# Altium integrated library microbuilder.IntLib: 530 symbols (part 6 of 7)
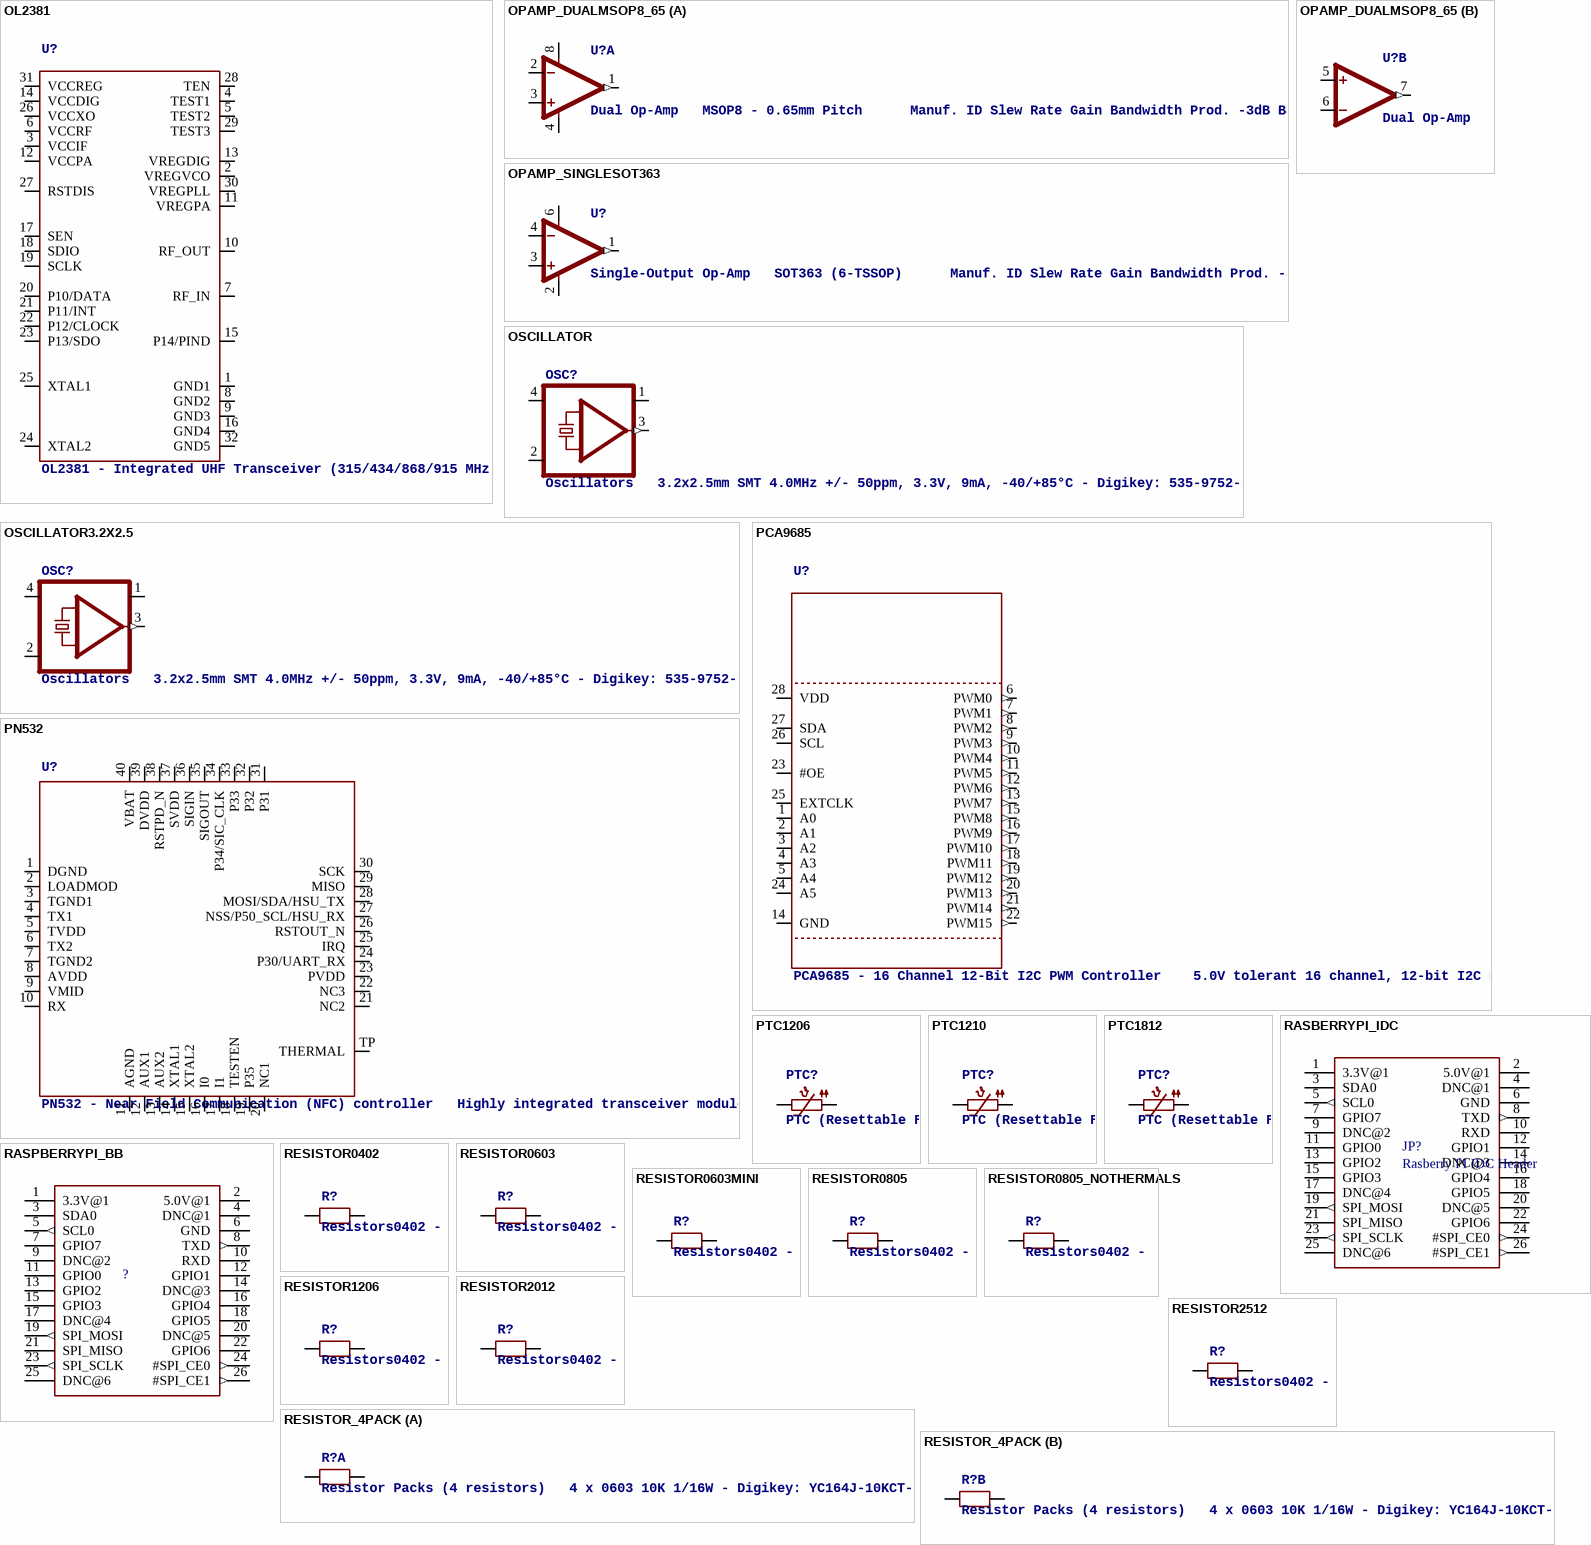
[diagram p57: symbols OL2381 to RESISTOR_4PACK]

## RESISTOR0805_NOTHERMALS
designator R?, comment Resistors0402 - 0402 Surface Mount Package  22 Ohm 1% 1/16W [Digikey: 311-22.0LRTR-ND]  33 Ohm 5% 1/16W  1.0K 5% 1/16W  1.5K 5% 1/16W  2.0K 1% 1/16W  10.0K 1% 1/16W [Digikey: 311-10.0KLRTR-ND]  10.0K 5% 1/16W [Digikey: RMCF0402JT10K0TR-ND]  12.1K 1% 1/16W [Digikey: 311-22.0LRTR-ND]  100.0K 5% 1/16W    0603 - 0603 Surface Mount Package  0 Ohm 1/10 Watt 1% Resistor  15 Ohm 1/10 Watt 1% Resistor  33 Ohm 1/10 Watt 1% Resistor  49.9 Ohm 1/10 Watt 1% Resistor  100 Ohm 1/10 Watt 1% Resistor  150 Ohm 1/10 Watt 1% Resistor  240 Ohm 1/10 Watt 1% Resistor  390 Ohm 1/10 Watt 1% Resistor  560 Ohm 1/10 Watt 1% Resistor  680 Ohm 1/10 Watt 1% Resistor  750 Ohm 1/10 Watt 1% Resistor  1.0K Ohm 1/10 Watt 1% Resistor  1.5K Ohm 1/10 Watt 1% Resistor  2.0K Ohm 1/10 Watt 1% Resistor  2.2K Ohm 1/10 Watt 1% Resistor  3.3K Ohm 1/10 Watt 1% Resistor  4.7K Ohm 1/10 Watt 1% Resistor  10.0K Ohm 1/10 Watt 1% Resistor  12.0K Ohm 1/10 Watt 1% Resistor  12.1K Ohm 1/10 Watt 1% Resistor  20.0K Ohm 1/10 Watt 1% Resistor  33.0K Ohm 1/10 Watt 1% Resistor  100.0K Ohm 1/10 Watt 1% Resistor    0805 - 0805 Surface Mount Package  0 Ohm 1/8 Watt 1% Resistor  33 Ohm 1/8 Watt 1% Resistor  100 Ohm 1/8 Watt 1% Resistor  150 Ohm 1/8 Watt 1% Resistor  200 Ohm 1/8 Watt 1% Resistor  240 Ohm 1/8 Watt 1% Resistor  330 Ohm 1/8 Watt 1% Resistor  390 Ohm 1/8 Watt 1% Resistor  470 Ohm 1/8 Watt 1% Resistor  1.0K Ohm 1/8 Watt 1% Resistor  1.5K Ohm 1/8 Watt 1% Resistor  2.0K Ohm 1/8 Watt 1% Resistor  4.7K Ohm 1/8 Watt 1% Resistor  5.1K Ohm 1/8 Watt 1% Resistor  5.6K Ohm 1/8 Watt 1% Resistor  10.0K Ohm 1/8 Watt 1% Resistor  22.0K Ohm 1/8 Watt 1% Resistor  33.0K Ohm 1/8 Watt 1% Resistor  100K Ohm 1/8 Watt 1% Resistor    1206 - 1206 Surface Mount Package  2012 - 2010 Surface Mount Package  0.11 Ohm 1/2 Watt 1% Resistor - Digikey: RHM.11UCT-ND
footprint 0805_NOTHERMALS
pins: 1, 2

## RESISTOR1206
designator R?, comment Resistors0402 - 0402 Surface Mount Package  22 Ohm 1% 1/16W [Digikey: 311-22.0LRTR-ND]  33 Ohm 5% 1/16W  1.0K 5% 1/16W  1.5K 5% 1/16W  2.0K 1% 1/16W  10.0K 1% 1/16W [Digikey: 311-10.0KLRTR-ND]  10.0K 5% 1/16W [Digikey: RMCF0402JT10K0TR-ND]  12.1K 1% 1/16W [Digikey: 311-22.0LRTR-ND]  100.0K 5% 1/16W    0603 - 0603 Surface Mount Package  0 Ohm 1/10 Watt 1% Resistor  15 Ohm 1/10 Watt 1% Resistor  33 Ohm 1/10 Watt 1% Resistor  49.9 Ohm 1/10 Watt 1% Resistor  100 Ohm 1/10 Watt 1% Resistor  150 Ohm 1/10 Watt 1% Resistor  240 Ohm 1/10 Watt 1% Resistor  390 Ohm 1/10 Watt 1% Resistor  560 Ohm 1/10 Watt 1% Resistor  680 Ohm 1/10 Watt 1% Resistor  750 Ohm 1/10 Watt 1% Resistor  1.0K Ohm 1/10 Watt 1% Resistor  1.5K Ohm 1/10 Watt 1% Resistor  2.0K Ohm 1/10 Watt 1% Resistor  2.2K Ohm 1/10 Watt 1% Resistor  3.3K Ohm 1/10 Watt 1% Resistor  4.7K Ohm 1/10 Watt 1% Resistor  10.0K Ohm 1/10 Watt 1% Resistor  12.0K Ohm 1/10 Watt 1% Resistor  12.1K Ohm 1/10 Watt 1% Resistor  20.0K Ohm 1/10 Watt 1% Resistor  33.0K Ohm 1/10 Watt 1% Resistor  100.0K Ohm 1/10 Watt 1% Resistor    0805 - 0805 Surface Mount Package  0 Ohm 1/8 Watt 1% Resistor  33 Ohm 1/8 Watt 1% Resistor  100 Ohm 1/8 Watt 1% Resistor  150 Ohm 1/8 Watt 1% Resistor  200 Ohm 1/8 Watt 1% Resistor  240 Ohm 1/8 Watt 1% Resistor  330 Ohm 1/8 Watt 1% Resistor  390 Ohm 1/8 Watt 1% Resistor  470 Ohm 1/8 Watt 1% Resistor  1.0K Ohm 1/8 Watt 1% Resistor  1.5K Ohm 1/8 Watt 1% Resistor  2.0K Ohm 1/8 Watt 1% Resistor  4.7K Ohm 1/8 Watt 1% Resistor  5.1K Ohm 1/8 Watt 1% Resistor  5.6K Ohm 1/8 Watt 1% Resistor  10.0K Ohm 1/8 Watt 1% Resistor  22.0K Ohm 1/8 Watt 1% Resistor  33.0K Ohm 1/8 Watt 1% Resistor  100K Ohm 1/8 Watt 1% Resistor    1206 - 1206 Surface Mount Package  2012 - 2010 Surface Mount Package  0.11 Ohm 1/2 Watt 1% Resistor - Digikey: RHM.11UCT-ND
footprint 1206
pins: 1, 2

## RESISTOR2012
designator R?, comment Resistors0402 - 0402 Surface Mount Package  22 Ohm 1% 1/16W [Digikey: 311-22.0LRTR-ND]  33 Ohm 5% 1/16W  1.0K 5% 1/16W  1.5K 5% 1/16W  2.0K 1% 1/16W  10.0K 1% 1/16W [Digikey: 311-10.0KLRTR-ND]  10.0K 5% 1/16W [Digikey: RMCF0402JT10K0TR-ND]  12.1K 1% 1/16W [Digikey: 311-22.0LRTR-ND]  100.0K 5% 1/16W    0603 - 0603 Surface Mount Package  0 Ohm 1/10 Watt 1% Resistor  15 Ohm 1/10 Watt 1% Resistor  33 Ohm 1/10 Watt 1% Resistor  49.9 Ohm 1/10 Watt 1% Resistor  100 Ohm 1/10 Watt 1% Resistor  150 Ohm 1/10 Watt 1% Resistor  240 Ohm 1/10 Watt 1% Resistor  390 Ohm 1/10 Watt 1% Resistor  560 Ohm 1/10 Watt 1% Resistor  680 Ohm 1/10 Watt 1% Resistor  750 Ohm 1/10 Watt 1% Resistor  1.0K Ohm 1/10 Watt 1% Resistor  1.5K Ohm 1/10 Watt 1% Resistor  2.0K Ohm 1/10 Watt 1% Resistor  2.2K Ohm 1/10 Watt 1% Resistor  3.3K Ohm 1/10 Watt 1% Resistor  4.7K Ohm 1/10 Watt 1% Resistor  10.0K Ohm 1/10 Watt 1% Resistor  12.0K Ohm 1/10 Watt 1% Resistor  12.1K Ohm 1/10 Watt 1% Resistor  20.0K Ohm 1/10 Watt 1% Resistor  33.0K Ohm 1/10 Watt 1% Resistor  100.0K Ohm 1/10 Watt 1% Resistor    0805 - 0805 Surface Mount Package  0 Ohm 1/8 Watt 1% Resistor  33 Ohm 1/8 Watt 1% Resistor  100 Ohm 1/8 Watt 1% Resistor  150 Ohm 1/8 Watt 1% Resistor  200 Ohm 1/8 Watt 1% Resistor  240 Ohm 1/8 Watt 1% Resistor  330 Ohm 1/8 Watt 1% Resistor  390 Ohm 1/8 Watt 1% Resistor  470 Ohm 1/8 Watt 1% Resistor  1.0K Ohm 1/8 Watt 1% Resistor  1.5K Ohm 1/8 Watt 1% Resistor  2.0K Ohm 1/8 Watt 1% Resistor  4.7K Ohm 1/8 Watt 1% Resistor  5.1K Ohm 1/8 Watt 1% Resistor  5.6K Ohm 1/8 Watt 1% Resistor  10.0K Ohm 1/8 Watt 1% Resistor  22.0K Ohm 1/8 Watt 1% Resistor  33.0K Ohm 1/8 Watt 1% Resistor  100K Ohm 1/8 Watt 1% Resistor    1206 - 1206 Surface Mount Package  2012 - 2010 Surface Mount Package  0.11 Ohm 1/2 Watt 1% Resistor - Digikey: RHM.11UCT-ND
footprint 2012
pins: 1, 2

## RESISTOR2512
designator R?, comment Resistors0402 - 0402 Surface Mount Package  22 Ohm 1% 1/16W [Digikey: 311-22.0LRTR-ND]  33 Ohm 5% 1/16W  1.0K 5% 1/16W  1.5K 5% 1/16W  2.0K 1% 1/16W  10.0K 1% 1/16W [Digikey: 311-10.0KLRTR-ND]  10.0K 5% 1/16W [Digikey: RMCF0402JT10K0TR-ND]  12.1K 1% 1/16W [Digikey: 311-22.0LRTR-ND]  100.0K 5% 1/16W    0603 - 0603 Surface Mount Package  0 Ohm 1/10 Watt 1% Resistor  15 Ohm 1/10 Watt 1% Resistor  33 Ohm 1/10 Watt 1% Resistor  49.9 Ohm 1/10 Watt 1% Resistor  100 Ohm 1/10 Watt 1% Resistor  150 Ohm 1/10 Watt 1% Resistor  240 Ohm 1/10 Watt 1% Resistor  390 Ohm 1/10 Watt 1% Resistor  560 Ohm 1/10 Watt 1% Resistor  680 Ohm 1/10 Watt 1% Resistor  750 Ohm 1/10 Watt 1% Resistor  1.0K Ohm 1/10 Watt 1% Resistor  1.5K Ohm 1/10 Watt 1% Resistor  2.0K Ohm 1/10 Watt 1% Resistor  2.2K Ohm 1/10 Watt 1% Resistor  3.3K Ohm 1/10 Watt 1% Resistor  4.7K Ohm 1/10 Watt 1% Resistor  10.0K Ohm 1/10 Watt 1% Resistor  12.0K Ohm 1/10 Watt 1% Resistor  12.1K Ohm 1/10 Watt 1% Resistor  20.0K Ohm 1/10 Watt 1% Resistor  33.0K Ohm 1/10 Watt 1% Resistor  100.0K Ohm 1/10 Watt 1% Resistor    0805 - 0805 Surface Mount Package  0 Ohm 1/8 Watt 1% Resistor  33 Ohm 1/8 Watt 1% Resistor  100 Ohm 1/8 Watt 1% Resistor  150 Ohm 1/8 Watt 1% Resistor  200 Ohm 1/8 Watt 1% Resistor  240 Ohm 1/8 Watt 1% Resistor  330 Ohm 1/8 Watt 1% Resistor  390 Ohm 1/8 Watt 1% Resistor  470 Ohm 1/8 Watt 1% Resistor  1.0K Ohm 1/8 Watt 1% Resistor  1.5K Ohm 1/8 Watt 1% Resistor  2.0K Ohm 1/8 Watt 1% Resistor  4.7K Ohm 1/8 Watt 1% Resistor  5.1K Ohm 1/8 Watt 1% Resistor  5.6K Ohm 1/8 Watt 1% Resistor  10.0K Ohm 1/8 Watt 1% Resistor  22.0K Ohm 1/8 Watt 1% Resistor  33.0K Ohm 1/8 Watt 1% Resistor  100K Ohm 1/8 Watt 1% Resistor    1206 - 1206 Surface Mount Package  2012 - 2010 Surface Mount Package  0.11 Ohm 1/2 Watt 1% Resistor - Digikey: RHM.11UCT-ND
footprint 2512
pins: 1, 2

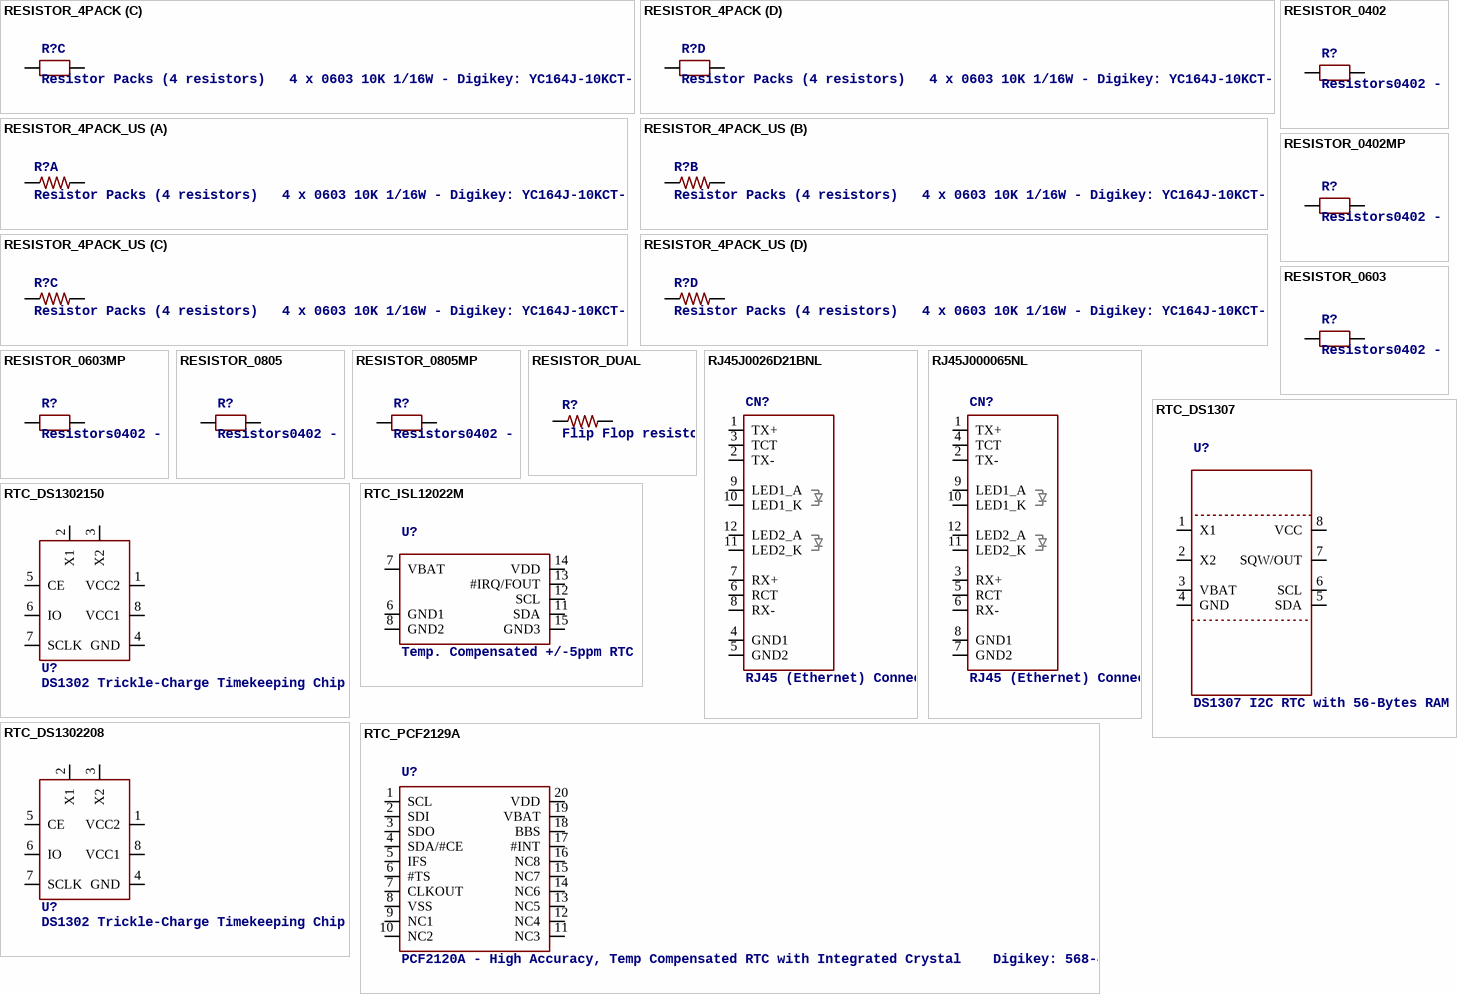
[diagram p46: symbols RESISTOR_4PACK to RTC_PCF2129A]

## RESISTOR_4PACK
designator R?, comment Resistor Packs (4 resistors)   4 x 0603 10K 1/16W - Digikey: YC164J-10KCT-ND
footprint RESPACK_4X0603
part A pins: 1, 8 2
part B pins: 2 1, 7 2
part C pins: 3 1, 6 2
part D pins: 4 1, 5 2

## RESISTOR_4PACK_US
designator R?, comment Resistor Packs (4 resistors)   4 x 0603 10K 1/16W - Digikey: YC164J-10KCT-ND
footprint RESPACK_4X0603
part A pins: 1, 8 2
part B pins: 2 1, 7 2
part C pins: 3 1, 6 2
part D pins: 4 1, 5 2

## RESISTOR_0402
designator R?, comment Resistors0402 - 0402 Surface Mount Package  22 Ohm 1% 1/16W [Digikey: 311-22.0LRTR-ND]  33 Ohm 5% 1/16W  1.0K 5% 1/16W  1.5K 5% 1/16W  2.0K 1% 1/16W  10.0K 1% 1/16W [Digikey: 311-10.0KLRTR-ND]  10.0K 5% 1/16W [Digikey: RMCF0402JT10K0TR-ND]  12.1K 1% 1/16W [Digikey: 311-22.0LRTR-ND]  100.0K 5% 1/16W    0603 - 0603 Surface Mount Package  0 Ohm 1/10 Watt 1% Resistor  15 Ohm 1/10 Watt 1% Resistor  33 Ohm 1/10 Watt 1% Resistor  49.9 Ohm 1/10 Watt 1% Resistor  100 Ohm 1/10 Watt 1% Resistor  150 Ohm 1/10 Watt 1% Resistor  240 Ohm 1/10 Watt 1% Resistor  390 Ohm 1/10 Watt 1% Resistor  560 Ohm 1/10 Watt 1% Resistor  680 Ohm 1/10 Watt 1% Resistor  750 Ohm 1/10 Watt 1% Resistor  1.0K Ohm 1/10 Watt 1% Resistor  1.5K Ohm 1/10 Watt 1% Resistor  2.0K Ohm 1/10 Watt 1% Resistor  2.2K Ohm 1/10 Watt 1% Resistor  3.3K Ohm 1/10 Watt 1% Resistor  4.7K Ohm 1/10 Watt 1% Resistor  10.0K Ohm 1/10 Watt 1% Resistor  12.0K Ohm 1/10 Watt 1% Resistor  12.1K Ohm 1/10 Watt 1% Resistor  20.0K Ohm 1/10 Watt 1% Resistor  33.0K Ohm 1/10 Watt 1% Resistor  100.0K Ohm 1/10 Watt 1% Resistor    0805 - 0805 Surface Mount Package  0 Ohm 1/8 Watt 1% Resistor  33 Ohm 1/8 Watt 1% Resistor  100 Ohm 1/8 Watt 1% Resistor  150 Ohm 1/8 Watt 1% Resistor  200 Ohm 1/8 Watt 1% Resistor  240 Ohm 1/8 Watt 1% Resistor  330 Ohm 1/8 Watt 1% Resistor  390 Ohm 1/8 Watt 1% Resistor  470 Ohm 1/8 Watt 1% Resistor  1.0K Ohm 1/8 Watt 1% Resistor  1.5K Ohm 1/8 Watt 1% Resistor  2.0K Ohm 1/8 Watt 1% Resistor  4.7K Ohm 1/8 Watt 1% Resistor  5.1K Ohm 1/8 Watt 1% Resistor  5.6K Ohm 1/8 Watt 1% Resistor  10.0K Ohm 1/8 Watt 1% Resistor  22.0K Ohm 1/8 Watt 1% Resistor  33.0K Ohm 1/8 Watt 1% Resistor  100K Ohm 1/8 Watt 1% Resistor    1206 - 1206 Surface Mount Package  2012 - 2010 Surface Mount Package  0.11 Ohm 1/2 Watt 1% Resistor - Digikey: RHM.11UCT-ND
footprint _0402
pins: 1, 2

## RESISTOR_0402MP
designator R?, comment Resistors0402 - 0402 Surface Mount Package  22 Ohm 1% 1/16W [Digikey: 311-22.0LRTR-ND]  33 Ohm 5% 1/16W  1.0K 5% 1/16W  1.5K 5% 1/16W  2.0K 1% 1/16W  10.0K 1% 1/16W [Digikey: 311-10.0KLRTR-ND]  10.0K 5% 1/16W [Digikey: RMCF0402JT10K0TR-ND]  12.1K 1% 1/16W [Digikey: 311-22.0LRTR-ND]  100.0K 5% 1/16W    0603 - 0603 Surface Mount Package  0 Ohm 1/10 Watt 1% Resistor  15 Ohm 1/10 Watt 1% Resistor  33 Ohm 1/10 Watt 1% Resistor  49.9 Ohm 1/10 Watt 1% Resistor  100 Ohm 1/10 Watt 1% Resistor  150 Ohm 1/10 Watt 1% Resistor  240 Ohm 1/10 Watt 1% Resistor  390 Ohm 1/10 Watt 1% Resistor  560 Ohm 1/10 Watt 1% Resistor  680 Ohm 1/10 Watt 1% Resistor  750 Ohm 1/10 Watt 1% Resistor  1.0K Ohm 1/10 Watt 1% Resistor  1.5K Ohm 1/10 Watt 1% Resistor  2.0K Ohm 1/10 Watt 1% Resistor  2.2K Ohm 1/10 Watt 1% Resistor  3.3K Ohm 1/10 Watt 1% Resistor  4.7K Ohm 1/10 Watt 1% Resistor  10.0K Ohm 1/10 Watt 1% Resistor  12.0K Ohm 1/10 Watt 1% Resistor  12.1K Ohm 1/10 Watt 1% Resistor  20.0K Ohm 1/10 Watt 1% Resistor  33.0K Ohm 1/10 Watt 1% Resistor  100.0K Ohm 1/10 Watt 1% Resistor    0805 - 0805 Surface Mount Package  0 Ohm 1/8 Watt 1% Resistor  33 Ohm 1/8 Watt 1% Resistor  100 Ohm 1/8 Watt 1% Resistor  150 Ohm 1/8 Watt 1% Resistor  200 Ohm 1/8 Watt 1% Resistor  240 Ohm 1/8 Watt 1% Resistor  330 Ohm 1/8 Watt 1% Resistor  390 Ohm 1/8 Watt 1% Resistor  470 Ohm 1/8 Watt 1% Resistor  1.0K Ohm 1/8 Watt 1% Resistor  1.5K Ohm 1/8 Watt 1% Resistor  2.0K Ohm 1/8 Watt 1% Resistor  4.7K Ohm 1/8 Watt 1% Resistor  5.1K Ohm 1/8 Watt 1% Resistor  5.6K Ohm 1/8 Watt 1% Resistor  10.0K Ohm 1/8 Watt 1% Resistor  22.0K Ohm 1/8 Watt 1% Resistor  33.0K Ohm 1/8 Watt 1% Resistor  100K Ohm 1/8 Watt 1% Resistor    1206 - 1206 Surface Mount Package  2012 - 2010 Surface Mount Package  0.11 Ohm 1/2 Watt 1% Resistor - Digikey: RHM.11UCT-ND
footprint _0402MP
pins: 1, 2

## RESISTOR_0603
designator R?, comment Resistors0402 - 0402 Surface Mount Package  22 Ohm 1% 1/16W [Digikey: 311-22.0LRTR-ND]  33 Ohm 5% 1/16W  1.0K 5% 1/16W  1.5K 5% 1/16W  2.0K 1% 1/16W  10.0K 1% 1/16W [Digikey: 311-10.0KLRTR-ND]  10.0K 5% 1/16W [Digikey: RMCF0402JT10K0TR-ND]  12.1K 1% 1/16W [Digikey: 311-22.0LRTR-ND]  100.0K 5% 1/16W    0603 - 0603 Surface Mount Package  0 Ohm 1/10 Watt 1% Resistor  15 Ohm 1/10 Watt 1% Resistor  33 Ohm 1/10 Watt 1% Resistor  49.9 Ohm 1/10 Watt 1% Resistor  100 Ohm 1/10 Watt 1% Resistor  150 Ohm 1/10 Watt 1% Resistor  240 Ohm 1/10 Watt 1% Resistor  390 Ohm 1/10 Watt 1% Resistor  560 Ohm 1/10 Watt 1% Resistor  680 Ohm 1/10 Watt 1% Resistor  750 Ohm 1/10 Watt 1% Resistor  1.0K Ohm 1/10 Watt 1% Resistor  1.5K Ohm 1/10 Watt 1% Resistor  2.0K Ohm 1/10 Watt 1% Resistor  2.2K Ohm 1/10 Watt 1% Resistor  3.3K Ohm 1/10 Watt 1% Resistor  4.7K Ohm 1/10 Watt 1% Resistor  10.0K Ohm 1/10 Watt 1% Resistor  12.0K Ohm 1/10 Watt 1% Resistor  12.1K Ohm 1/10 Watt 1% Resistor  20.0K Ohm 1/10 Watt 1% Resistor  33.0K Ohm 1/10 Watt 1% Resistor  100.0K Ohm 1/10 Watt 1% Resistor    0805 - 0805 Surface Mount Package  0 Ohm 1/8 Watt 1% Resistor  33 Ohm 1/8 Watt 1% Resistor  100 Ohm 1/8 Watt 1% Resistor  150 Ohm 1/8 Watt 1% Resistor  200 Ohm 1/8 Watt 1% Resistor  240 Ohm 1/8 Watt 1% Resistor  330 Ohm 1/8 Watt 1% Resistor  390 Ohm 1/8 Watt 1% Resistor  470 Ohm 1/8 Watt 1% Resistor  1.0K Ohm 1/8 Watt 1% Resistor  1.5K Ohm 1/8 Watt 1% Resistor  2.0K Ohm 1/8 Watt 1% Resistor  4.7K Ohm 1/8 Watt 1% Resistor  5.1K Ohm 1/8 Watt 1% Resistor  5.6K Ohm 1/8 Watt 1% Resistor  10.0K Ohm 1/8 Watt 1% Resistor  22.0K Ohm 1/8 Watt 1% Resistor  33.0K Ohm 1/8 Watt 1% Resistor  100K Ohm 1/8 Watt 1% Resistor    1206 - 1206 Surface Mount Package  2012 - 2010 Surface Mount Package  0.11 Ohm 1/2 Watt 1% Resistor - Digikey: RHM.11UCT-ND
footprint _0603
pins: 1, 2

## RESISTOR_0603MP
designator R?, comment Resistors0402 - 0402 Surface Mount Package  22 Ohm 1% 1/16W [Digikey: 311-22.0LRTR-ND]  33 Ohm 5% 1/16W  1.0K 5% 1/16W  1.5K 5% 1/16W  2.0K 1% 1/16W  10.0K 1% 1/16W [Digikey: 311-10.0KLRTR-ND]  10.0K 5% 1/16W [Digikey: RMCF0402JT10K0TR-ND]  12.1K 1% 1/16W [Digikey: 311-22.0LRTR-ND]  100.0K 5% 1/16W    0603 - 0603 Surface Mount Package  0 Ohm 1/10 Watt 1% Resistor  15 Ohm 1/10 Watt 1% Resistor  33 Ohm 1/10 Watt 1% Resistor  49.9 Ohm 1/10 Watt 1% Resistor  100 Ohm 1/10 Watt 1% Resistor  150 Ohm 1/10 Watt 1% Resistor  240 Ohm 1/10 Watt 1% Resistor  390 Ohm 1/10 Watt 1% Resistor  560 Ohm 1/10 Watt 1% Resistor  680 Ohm 1/10 Watt 1% Resistor  750 Ohm 1/10 Watt 1% Resistor  1.0K Ohm 1/10 Watt 1% Resistor  1.5K Ohm 1/10 Watt 1% Resistor  2.0K Ohm 1/10 Watt 1% Resistor  2.2K Ohm 1/10 Watt 1% Resistor  3.3K Ohm 1/10 Watt 1% Resistor  4.7K Ohm 1/10 Watt 1% Resistor  10.0K Ohm 1/10 Watt 1% Resistor  12.0K Ohm 1/10 Watt 1% Resistor  12.1K Ohm 1/10 Watt 1% Resistor  20.0K Ohm 1/10 Watt 1% Resistor  33.0K Ohm 1/10 Watt 1% Resistor  100.0K Ohm 1/10 Watt 1% Resistor    0805 - 0805 Surface Mount Package  0 Ohm 1/8 Watt 1% Resistor  33 Ohm 1/8 Watt 1% Resistor  100 Ohm 1/8 Watt 1% Resistor  150 Ohm 1/8 Watt 1% Resistor  200 Ohm 1/8 Watt 1% Resistor  240 Ohm 1/8 Watt 1% Resistor  330 Ohm 1/8 Watt 1% Resistor  390 Ohm 1/8 Watt 1% Resistor  470 Ohm 1/8 Watt 1% Resistor  1.0K Ohm 1/8 Watt 1% Resistor  1.5K Ohm 1/8 Watt 1% Resistor  2.0K Ohm 1/8 Watt 1% Resistor  4.7K Ohm 1/8 Watt 1% Resistor  5.1K Ohm 1/8 Watt 1% Resistor  5.6K Ohm 1/8 Watt 1% Resistor  10.0K Ohm 1/8 Watt 1% Resistor  22.0K Ohm 1/8 Watt 1% Resistor  33.0K Ohm 1/8 Watt 1% Resistor  100K Ohm 1/8 Watt 1% Resistor    1206 - 1206 Surface Mount Package  2012 - 2010 Surface Mount Package  0.11 Ohm 1/2 Watt 1% Resistor - Digikey: RHM.11UCT-ND
footprint _0603MP
pins: 1, 2

## RESISTOR_0805
designator R?, comment Resistors0402 - 0402 Surface Mount Package  22 Ohm 1% 1/16W [Digikey: 311-22.0LRTR-ND]  33 Ohm 5% 1/16W  1.0K 5% 1/16W  1.5K 5% 1/16W  2.0K 1% 1/16W  10.0K 1% 1/16W [Digikey: 311-10.0KLRTR-ND]  10.0K 5% 1/16W [Digikey: RMCF0402JT10K0TR-ND]  12.1K 1% 1/16W [Digikey: 311-22.0LRTR-ND]  100.0K 5% 1/16W    0603 - 0603 Surface Mount Package  0 Ohm 1/10 Watt 1% Resistor  15 Ohm 1/10 Watt 1% Resistor  33 Ohm 1/10 Watt 1% Resistor  49.9 Ohm 1/10 Watt 1% Resistor  100 Ohm 1/10 Watt 1% Resistor  150 Ohm 1/10 Watt 1% Resistor  240 Ohm 1/10 Watt 1% Resistor  390 Ohm 1/10 Watt 1% Resistor  560 Ohm 1/10 Watt 1% Resistor  680 Ohm 1/10 Watt 1% Resistor  750 Ohm 1/10 Watt 1% Resistor  1.0K Ohm 1/10 Watt 1% Resistor  1.5K Ohm 1/10 Watt 1% Resistor  2.0K Ohm 1/10 Watt 1% Resistor  2.2K Ohm 1/10 Watt 1% Resistor  3.3K Ohm 1/10 Watt 1% Resistor  4.7K Ohm 1/10 Watt 1% Resistor  10.0K Ohm 1/10 Watt 1% Resistor  12.0K Ohm 1/10 Watt 1% Resistor  12.1K Ohm 1/10 Watt 1% Resistor  20.0K Ohm 1/10 Watt 1% Resistor  33.0K Ohm 1/10 Watt 1% Resistor  100.0K Ohm 1/10 Watt 1% Resistor    0805 - 0805 Surface Mount Package  0 Ohm 1/8 Watt 1% Resistor  33 Ohm 1/8 Watt 1% Resistor  100 Ohm 1/8 Watt 1% Resistor  150 Ohm 1/8 Watt 1% Resistor  200 Ohm 1/8 Watt 1% Resistor  240 Ohm 1/8 Watt 1% Resistor  330 Ohm 1/8 Watt 1% Resistor  390 Ohm 1/8 Watt 1% Resistor  470 Ohm 1/8 Watt 1% Resistor  1.0K Ohm 1/8 Watt 1% Resistor  1.5K Ohm 1/8 Watt 1% Resistor  2.0K Ohm 1/8 Watt 1% Resistor  4.7K Ohm 1/8 Watt 1% Resistor  5.1K Ohm 1/8 Watt 1% Resistor  5.6K Ohm 1/8 Watt 1% Resistor  10.0K Ohm 1/8 Watt 1% Resistor  22.0K Ohm 1/8 Watt 1% Resistor  33.0K Ohm 1/8 Watt 1% Resistor  100K Ohm 1/8 Watt 1% Resistor    1206 - 1206 Surface Mount Package  2012 - 2010 Surface Mount Package  0.11 Ohm 1/2 Watt 1% Resistor - Digikey: RHM.11UCT-ND
footprint _0805
pins: 1, 2

## RESISTOR_0805MP
designator R?, comment Resistors0402 - 0402 Surface Mount Package  22 Ohm 1% 1/16W [Digikey: 311-22.0LRTR-ND]  33 Ohm 5% 1/16W  1.0K 5% 1/16W  1.5K 5% 1/16W  2.0K 1% 1/16W  10.0K 1% 1/16W [Digikey: 311-10.0KLRTR-ND]  10.0K 5% 1/16W [Digikey: RMCF0402JT10K0TR-ND]  12.1K 1% 1/16W [Digikey: 311-22.0LRTR-ND]  100.0K 5% 1/16W    0603 - 0603 Surface Mount Package  0 Ohm 1/10 Watt 1% Resistor  15 Ohm 1/10 Watt 1% Resistor  33 Ohm 1/10 Watt 1% Resistor  49.9 Ohm 1/10 Watt 1% Resistor  100 Ohm 1/10 Watt 1% Resistor  150 Ohm 1/10 Watt 1% Resistor  240 Ohm 1/10 Watt 1% Resistor  390 Ohm 1/10 Watt 1% Resistor  560 Ohm 1/10 Watt 1% Resistor  680 Ohm 1/10 Watt 1% Resistor  750 Ohm 1/10 Watt 1% Resistor  1.0K Ohm 1/10 Watt 1% Resistor  1.5K Ohm 1/10 Watt 1% Resistor  2.0K Ohm 1/10 Watt 1% Resistor  2.2K Ohm 1/10 Watt 1% Resistor  3.3K Ohm 1/10 Watt 1% Resistor  4.7K Ohm 1/10 Watt 1% Resistor  10.0K Ohm 1/10 Watt 1% Resistor  12.0K Ohm 1/10 Watt 1% Resistor  12.1K Ohm 1/10 Watt 1% Resistor  20.0K Ohm 1/10 Watt 1% Resistor  33.0K Ohm 1/10 Watt 1% Resistor  100.0K Ohm 1/10 Watt 1% Resistor    0805 - 0805 Surface Mount Package  0 Ohm 1/8 Watt 1% Resistor  33 Ohm 1/8 Watt 1% Resistor  100 Ohm 1/8 Watt 1% Resistor  150 Ohm 1/8 Watt 1% Resistor  200 Ohm 1/8 Watt 1% Resistor  240 Ohm 1/8 Watt 1% Resistor  330 Ohm 1/8 Watt 1% Resistor  390 Ohm 1/8 Watt 1% Resistor  470 Ohm 1/8 Watt 1% Resistor  1.0K Ohm 1/8 Watt 1% Resistor  1.5K Ohm 1/8 Watt 1% Resistor  2.0K Ohm 1/8 Watt 1% Resistor  4.7K Ohm 1/8 Watt 1% Resistor  5.1K Ohm 1/8 Watt 1% Resistor  5.6K Ohm 1/8 Watt 1% Resistor  10.0K Ohm 1/8 Watt 1% Resistor  22.0K Ohm 1/8 Watt 1% Resistor  33.0K Ohm 1/8 Watt 1% Resistor  100K Ohm 1/8 Watt 1% Resistor    1206 - 1206 Surface Mount Package  2012 - 2010 Surface Mount Package  0.11 Ohm 1/2 Watt 1% Resistor - Digikey: RHM.11UCT-ND
footprint _0805MP
pins: 1, 2

## RESISTOR_DUAL
designator R?, comment Flip Flop resistor   An 0805 resistor inside a standard 1/4W 5% resistor. Makes for easy mods    Footprint taken from the Adafruit Industries Eagle Library.
footprint 0805-THM
pins: 1, 2

## RJ45J0026D21BNL
designator CN?, comment RJ45 (Ethernet) Connectors   J0026D21BNL - RJ45 Connector with internal transformer and 2 LEDs (Yellow/Green).  LEDs have max foreward-voltage of 2.5V.  LEDs require an external resistor.  Digikey: 553-1349-ND   J00-0065NL - RJ45 Connector with internal transformer and 2 LEDs (Yellow/Green).  LEDs have max foreward-voltage of 2.5V.  LEDs require an external resistor.  Digikey: 553-1345-ND
footprint RJ45_PULSEJACK
pins: 1 TX+, 2 TX-, 3 TCT, 4 GND1, 5 GND2, 6 RCT, 7 RX+, 8 RX-, 9 LED1_A, 10 LED1_K, 11 LED2_K, 12 LED2_A

## RJ45J000065NL
designator CN?, comment RJ45 (Ethernet) Connectors   J0026D21BNL - RJ45 Connector with internal transformer and 2 LEDs (Yellow/Green).  LEDs have max foreward-voltage of 2.5V.  LEDs require an external resistor.  Digikey: 553-1349-ND   J00-0065NL - RJ45 Connector with internal transformer and 2 LEDs (Yellow/Green).  LEDs have max foreward-voltage of 2.5V.  LEDs require an external resistor.  Digikey: 553-1345-ND
footprint RJ45_PULSEJACK
pins: 1 TX+, 2 TX-, 3 RX+, 4 TCT, 5 RCT, 6 RX-, 7 GND2, 8 GND1, 9 LED1_A, 10 LED1_K, 11 LED2_K, 12 LED2_A

## RTC_DS1307
designator U?, comment DS1307 I2C RTC with 56-Bytes RAM
footprint SOIC8_150MIL
pins: 1 X1, 2 X2, 3 VBAT, 4 GND, 5 SDA, 6 SCL, 7 SQW/OUT, 8 VCC

## RTC_DS1302150
designator U?, comment DS1302 Trickle-Charge Timekeeping Chip
footprint SOIC8_150MIL
pins: 1 VCC2, 2 X1, 3 X2, 4 GND, 5 CE, 6 IO, 7 SCLK, 8 VCC1

## RTC_DS1302208
designator U?, comment DS1302 Trickle-Charge Timekeeping Chip
footprint SOIC8_208MIL
pins: 1 VCC2, 2 X1, 3 X2, 4 GND, 5 CE, 6 IO, 7 SCLK, 8 VCC1

## RTC_ISL12022M
designator U?, comment Temp. Compensated +/-5ppm RTC
footprint SOIC20WIDE
pins: 6 GND1 (power), 7 VBAT (power), 8 GND2 (power), 11 SDA, 12 SCL, 13 #IRQ/FOUT, 14 VDD (power), 15 GND3 (power)

## RTC_PCF2129A
designator U?, comment PCF2120A - High Accuracy, Temp Compensated RTC with Integrated Crystal    Digikey: 568-4960-5-ND
PARTNO: PCF2129AT/1,512
footprint SOIC20WIDE
pins: 1 SCL, 2 SDI, 3 SDO, 4 SDA/#CE, 5 IFS, 6 #TS, 7 CLKOUT, 8 VSS, 9 NC1, 10 NC2, 11 NC3, 12 NC4, 13 NC5, 14 NC6, 15 NC7, 16 NC8, 17 #INT, 18 BBS, 19 VBAT, 20 VDD

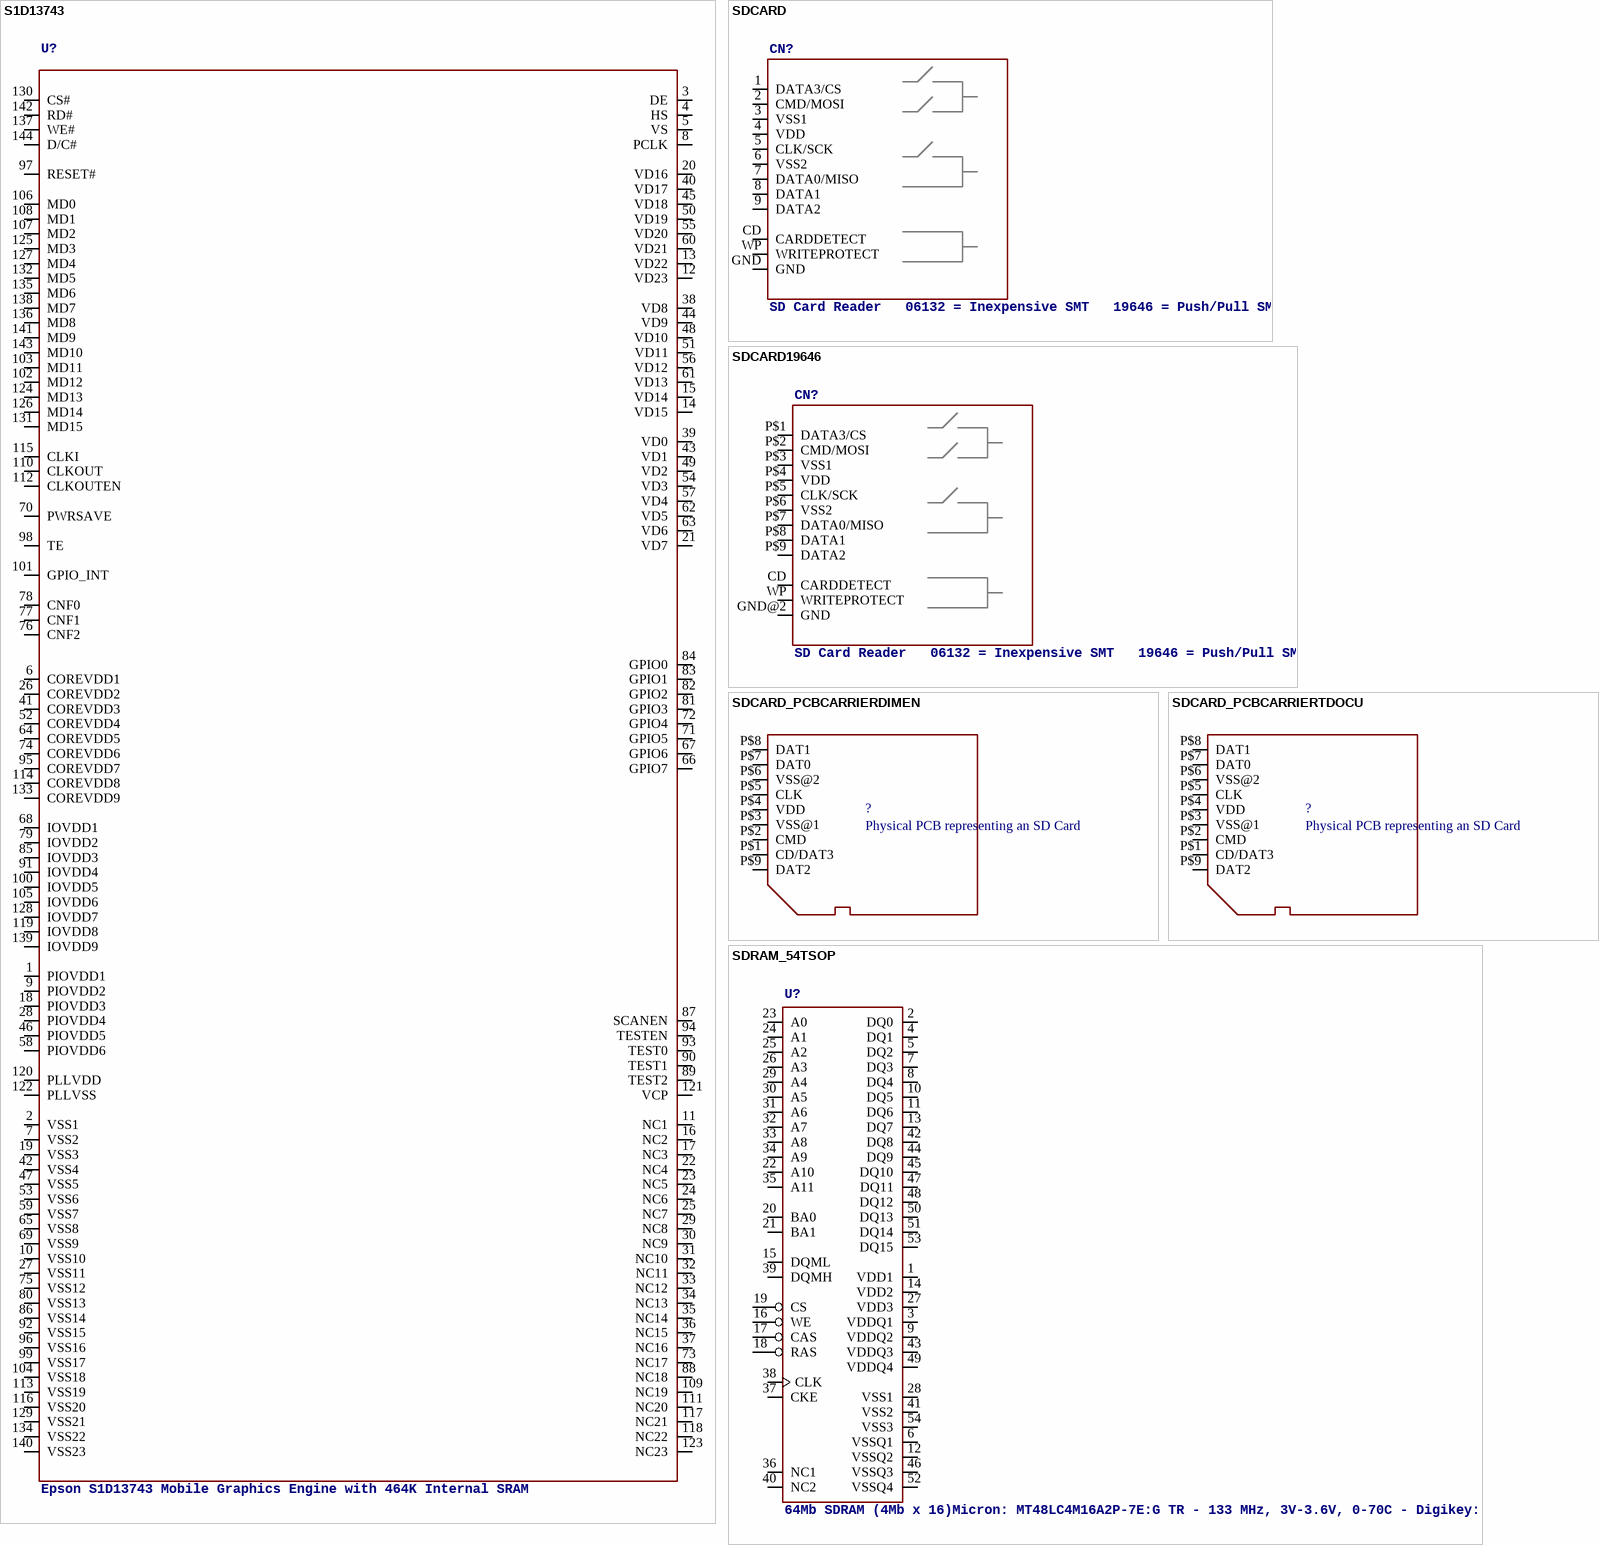
[diagram p47: symbols S1D13743 to SDRAM_54TSOP]

## S1D13743
designator U?, comment Epson S1D13743 Mobile Graphics Engine with 464K Internal SRAM
footprint LQFP144
pins: 1 PIOVDD1, 2 VSS1, 3 DE, 4 HS, 5 VS, 6 COREVDD1, 7 VSS2, 8 PCLK, 9 PIOVDD2, 10 VSS10, 11 NC1, 12 VD23, 13 VD22, 14 VD15, 15 VD14, 16 NC2, 17 NC3, 18 PIOVDD3, 19 VSS3, 20 VD16, 21 VD7, 22 NC4, 23 NC5, 24 NC6, 25 NC7, 26 COREVDD2, 27 VSS11, 28 PIOVDD4, 29 NC8, 30 NC9, 31 NC10, 32 NC11, 33 NC12, 34 NC13, 35 NC14, 36 NC15, 37 NC16, 38 VD8, 39 VD0, 40 VD17, 41 COREVDD3, 42 VSS4, 43 VD1, 44 VD9, 45 VD18, 46 PIOVDD5, 47 VSS5, 48 VD10, 49 VD2, 50 VD19, 51 VD11, 52 COREVDD4, 53 VSS6, 54 VD3, 55 VD20, 56 VD12, 57 VD4, 58 PIOVDD6, 59 VSS7, 60 VD21, 61 VD13, 62 VD5, 63 VD6, 64 COREVDD5, 65 VSS8, 66 GPIO7, 67 GPIO6, 68 IOVDD1, 69 VSS9, 70 PWRSAVE, 71 GPIO5, 72 GPIO4, 73 NC17, 74 COREVDD6, 75 VSS12, 76 CNF2, 77 CNF1, 78 CNF0, 79 IOVDD2, 80 VSS13, 81 GPIO3, 82 GPIO2, 83 GPIO1, 84 GPIO0, 85 IOVDD3, 86 VSS14, 87 SCANEN, 88 NC18, 89 TEST2, 90 TEST1, 91 IOVDD4, 92 VSS15, 93 TEST0, 94 TESTEN, 95 COREVDD7, 96 VSS16, 97 RESET#, 98 TE, 99 VSS17, 100 IOVDD5, 101 GPIO_INT, 102 MD12, 103 MD11, 104 VSS18, 105 IOVDD6, 106 MD0, 107 MD2, 108 MD1, 109 NC19, 110 CLKOUT, 111 NC20, 112 CLKOUTEN, 113 VSS19, 114 COREVDD8, 115 CLKI, 116 VSS20, 117 NC21, 118 NC22, 119 IOVDD8, 120 PLLVDD, 121 VCP, 122 PLLVSS, 123 NC23, 124 MD13, 125 MD3, 126 MD14, 127 MD4, 128 IOVDD7, 129 VSS21, 130 CS#, 131 MD15, 132 MD5, 133 COREVDD9, 134 VSS22, 135 MD6, 136 MD8, 137 WE#, 138 MD7, 139 IOVDD9, 140 VSS23, 141 MD9, 142 RD#, 143 MD10, 144 D/C#

## SDCARD
designator CN?, comment SD Card Reader   06132 = Inexpensive SMT   19646 = Push/Pull SMT
footprint SDCARD_SMT_4U06132
pins: 1 DATA3/CS, 2 CMD/MOSI, 3 VSS1, 4 VDD, 5 CLK/SCK, 6 VSS2, 7 DATA0/MISO, 8 DATA1, 9 DATA2, CD CARDDETECT, GND, WP WRITEPROTECT

## SDCARD19646
designator CN?, comment SD Card Reader   06132 = Inexpensive SMT   19646 = Push/Pull SMT
footprint SDCARD_SMT_4U19646
pins: CD CARDDETECT, GND@2 GND, P$1 DATA3/CS, P$2 CMD/MOSI, P$3 VSS1, P$4 VDD, P$5 CLK/SCK, P$6 VSS2, P$7 DATA0/MISO, P$8 DATA1, P$9 DATA2, WP WRITEPROTECT

## SDCARD_PCBCARRIERDIMEN
designator ?, comment Physical PCB representing an SD Card
footprint SDCARD_PCBCARRIER_DIM
pins: P$1 CD/DAT3, P$2 CMD, P$3 VSS@1 (power), P$4 VDD (power), P$5 CLK, P$6 VSS@2 (power), P$7 DAT0, P$8 DAT1, P$9 DAT2

## SDCARD_PCBCARRIERTDOCU
designator ?, comment Physical PCB representing an SD Card
footprint SDCARD_PCBCARRIER_DOCU
pins: P$1 CD/DAT3, P$2 CMD, P$3 VSS@1 (power), P$4 VDD (power), P$5 CLK, P$6 VSS@2 (power), P$7 DAT0, P$8 DAT1, P$9 DAT2

## SDRAM_54TSOP
designator U?, comment 64Mb SDRAM (4Mb x 16)Micron: MT48LC4M16A2P-7E:G TR - 133 MHz, 3V-3.6V, 0-70C - Digikey: 557-1089-1-ND  MT48LC4M16A2P-75 IT:G TR - 133 MHz, 3V-3.6V, -40-85C - Digikey: 557-1087-1-ND    ISSI (cheaper): IS42S16400F-7TL - 143 MHz, 3V-3.6V, 0-70C - Digikey: 706-1077-ND  IS42S16400J-7TLI - 143 MHz, 3V-3.6V, -40-85C - Digikey: 706-1132-ND       256Mb SDRAM (16Mb x 16)   MT48LC16M16A2TG-7E IT:D TR - 133MHz, 3V-3.6V, -40-85C - Digikey: 557-1064-1-ND
footprint TSOP54-400
pins: 1 VDD1, 2 DQ0, 3 VDDQ1, 4 DQ1, 5 DQ2, 6 VSSQ1, 7 DQ3, 8 DQ4, 9 VDDQ2, 10 DQ5, 11 DQ6, 12 VSSQ2, 13 DQ7, 14 VDD2, 15 DQML, 16 WE, 17 CAS, 18 RAS, 19 CS, 20 BA0, 21 BA1, 22 A10, 23 A0, 24 A1, 25 A2, 26 A3, 27 VDD3, 28 VSS1, 29 A4, 30 A5, 31 A6, 32 A7, 33 A8, 34 A9, 35 A11, 36 NC1, 37 CKE, 38 CLK, 39 DQMH, 40 NC2, 41 VSS2, 42 DQ8, 43 VDDQ3, 44 DQ9, 45 DQ10, 46 VSSQ3, 47 DQ11, 48 DQ12, 49 VDDQ4, 50 DQ13, 51 DQ14, 52 VSSQ4, 53 DQ15, 54 VSS3

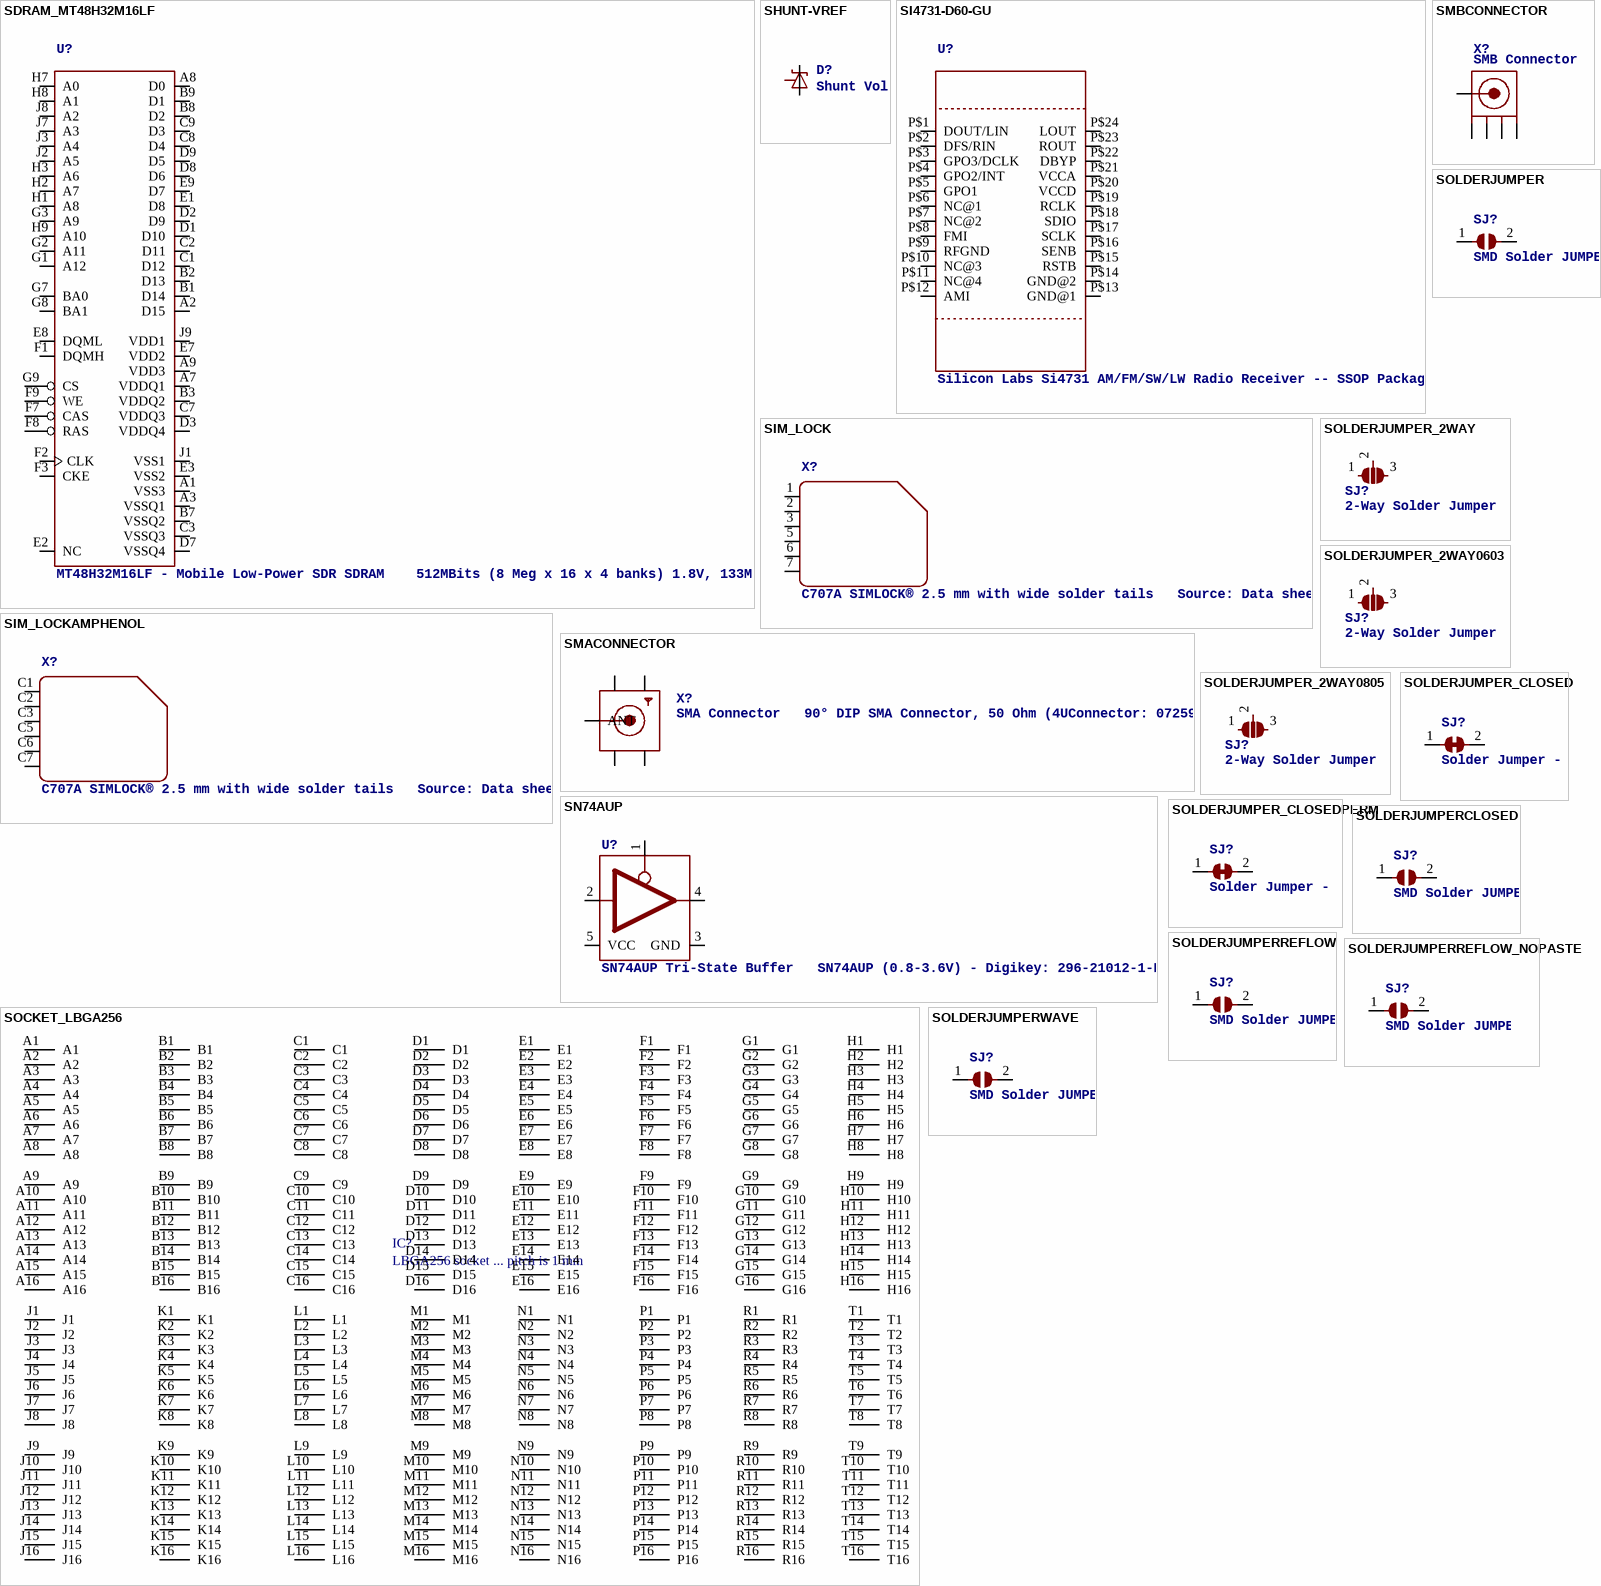
[diagram p48: symbols SDRAM_MT48H32M16LF to SOLDERJUMPERWAVE]

## SDRAM_MT48H32M16LF
designator U?, comment MT48H32M16LF - Mobile Low-Power SDR SDRAM    512MBits (8 Meg x 16 x 4 banks) 1.8V, 133MHz, -40°C-85°C   Digikey: 557-1389-1-ND
footprint VFBGA54
pins: A1 VSS3, A2 D15, A3 VSSQ1, A7 VDDQ1, A8 D0, A9 VDD3, B1 D14, B2 D13, B3 VDDQ2, B7 VSSQ2, B8 D2, B9 D1, C1 D12, C2 D11, C3 VSSQ3, C7 VDDQ3, C8 D4, C9 D3, D1 D10, D2 D9, D3 VDDQ4, D7 VSSQ4, D8 D6, D9 D5, E1 D8, E2 NC, E3 VSS2, E7 VDD2, E8 DQML, E9 D7, F1 DQMH, F2 CLK, F3 CKE, F7 CAS, F8 RAS, F9 WE, G1 A12, G2 A11, G3 A9, G7 BA0, G8 BA1, G9 CS, H1 A8, H2 A7, H3 A6, H7 A0, H8 A1, H9 A10, J1 VSS1, J2 A5, J3 A4, J7 A3, J8 A2, J9 VDD1

## SHUNT-VREF
designator D?, comment Shunt Voltage Reference    TS3431 - 1.24V Programmable Shunt Voltage Ref. - 1.24-24V, up to 0.25% accuracy, SOT23 (0.25% = Digikey: 497-4637-1-ND)  TLVH431 - 1.24V Programmable Shunt Voltage Ref - 1.24-18V, up to 0.50% accuracy, SOT23 (0.50% = Digikey: 296-17687-1-ND       See: http://www.ti.com/lit/an/slva445/slva445.pdf
footprint SOT23-R
pins: 1 VREF, 2 C, 3 A

## SI4731-D60-GU
designator U?, comment Silicon Labs Si4731 AM/FM/SW/LW Radio Receiver -- SSOP Package
footprint SI473X_SSOP
pins: P$1 DOUT/LIN, P$2 DFS/RIN, P$3 GPO3/DCLK, P$4 GPO2/INT, P$5 GPO1, P$6 NC@1, P$7 NC@2, P$8 FMI, P$9 RFGND, P$10 NC@3, P$11 NC@4, P$12 AMI, P$13 GND@1, P$14 GND@2, P$15 RSTB, P$16 SENB, P$17 SCLK, P$18 SDIO, P$19 RCLK, P$20 VCCD, P$21 VCCA, P$22 DBYP, P$23 ROUT, P$24 LOUT

## SIM_LOCK
designator X?, comment C707A SIMLOCK® 2.5 mm with wide solder tails   Source: Data sheet
footprint SIM_5002
pins: 1, 2, 3, 5 4, 6 5, 7 6

## SIM_LOCKAMPHENOL
designator X?, comment C707A SIMLOCK® 2.5 mm with wide solder tails   Source: Data sheet
OC_FARNELL: unknown; OC_NEWARK: unknown
footprint C707_10M006_512_2
pins: C1 1, C2 2, C3 3, C5 4, C6 5, C7 6

## SMACONNECTOR
designator X?, comment SMA Connector   90° DIP SMA Connector, 50 Ohm (4UConnector: 07259)
footprint SMA90_DIP
pins: ANTENNA ANT, GND1 (power), GND2 (power), GND3 (power), GND4 (power)

## SMBCONNECTOR
designator X?, comment SMB Connector
footprint SMB_DIP
pins: ANTENNA ANT, GND1 (power), GND2 (power), GND3 (power), GND4 (power)

## SN74AUP
designator U?, comment SN74AUP Tri-State Buffer   SN74AUP (0.8-3.6V) - Digikey: 296-21012-1-ND
footprint TSSOP5
pins: 1 OE, 2 I, 3 GND (power), 4 O (hiz), 5 VCC (power)

## SOCKET_LBGA256
designator IC?, comment LBGA256 socket ... pitch is 1 mm
footprint SOCKET_LBGA256_8117-256-4E-01
pins: A1, A2, A3, A4, A5, A6, A7, A8, A9, A10, A11, A12, A13, A14, A15, A16, B1, B2, B3, B4, B5, B6, B7, B8, B9, B10, B11, B12, B13, B14, B15, B16, C1, C2, C3, C4, C5, C6, C7, C8, C9, C10, C11, C12, C13, C14, C15, C16, D1, D2, D3, D4, D5, D6, D7, D8, D9, D10, D11, D12, D13, D14, D15, D16, E1, E2, E3, E4, E5, E6, E7, E8, E9, E10, E11, E12, E13, E14, E15, E16, F1, F2, F3, F4, F5, F6, F7, F8, F9, F10, F11, F12, F13, F14, F15, F16, G1, G2, G3, G4, G5, G6, G7, G8, G9, G10, G11, G12, G13, G14, G15, G16, H1, H2, H3, H4, H5, H6, H7, H8, H9, H10, H11, H12, H13, H14, H15, H16, J1, J2, J3, J4, J5, J6, J7, J8, J9, J10, J11, J12, J13, J14, J15, J16, K1, K2, K3, K4, K5, K6, K7, K8, K9, K10, K11, K12, K13, K14, K15, K16, L1, L2, L3, L4, L5, L6, L7, L8, L9, L10, L11, L12, L13, L14, L15, L16, M1, M2, M3, M4, M5, M6, M7, M8, M9, M10, M11, M12, M13, M14, M15, M16, N1, N2, N3, N4, N5, N6, N7, N8, N9, N10, N11, N12, N13, N14, N15, N16, P1, P2, P3, P4, P5, P6, P7, P8, P9, P10, P11, P12, P13, P14, P15, P16, R1, R2, R3, R4, R5, R6, R7, R8, R9, R10, R11, R12, R13, R14, R15, R16, T1, T2, T3, T4, T5, T6, T7, T8, T9, T10, T11, T12, T13, T14, T15, T16

## SOLDERJUMPER
designator SJ?, comment SMD Solder JUMPER   Solder the two pads together to create a connection, or remove the solder to break it.REFLOW - Use this footprint for solder paste and reflow ovens. WAVE - Use this footprint for hand-soldering (larger pads).    CLOSED - Has a trace between the two pads to ensure it is closed by default.  The trace needs to be cut to disable the jumper, and can be closed again by creating a solder bridge between the two pads.
BOM: EXCLUDE
footprint SOLDERJUMPER_ARROW_NOPASTE
pins: 1, 2

## SOLDERJUMPER_2WAY
designator SJ?, comment 2-Way Solder Jumper
footprint SOLDERJUMPER_2WAY_OPEN_NOPASTE
pins: 1, 2, 3

## SOLDERJUMPER_2WAY0603
designator SJ?, comment 2-Way Solder Jumper
footprint SOLDERJUMPER_2WAY_OPEN_0603
pins: 1, 2, 3

## SOLDERJUMPER_2WAY0805
designator SJ?, comment 2-Way Solder Jumper
footprint SOLDERJUMPER_2WAY_OPEN_0805
pins: 1, 2, 3

## SOLDERJUMPER_CLOSED
designator SJ?, comment Solder Jumper - Closed   These solder jumpers are closed by default CLOSEDWIRE - 10 mil trace between pads that can be cut and resoldered later  CLOSEDPERM - 63 mil trace between pads for a permanent connection (used to 'bridge' two signals, a shameless hack for Eagle).  Can double as a test point as well (no cream layer)
footprint SOLDERJUMPER_CLOSEDWIRE
pins: 1, 2

## SOLDERJUMPER_CLOSEDPERM
designator SJ?, comment Solder Jumper - Closed   These solder jumpers are closed by default CLOSEDWIRE - 10 mil trace between pads that can be cut and resoldered later  CLOSEDPERM - 63 mil trace between pads for a permanent connection (used to 'bridge' two signals, a shameless hack for Eagle).  Can double as a test point as well (no cream layer)
footprint SOLDERJUMPER_CLOSEDPERM
pins: 1, 2

## SOLDERJUMPERCLOSED
designator SJ?, comment SMD Solder JUMPER   Solder the two pads together to create a connection, or remove the solder to break it.REFLOW - Use this footprint for solder paste and reflow ovens. WAVE - Use this footprint for hand-soldering (larger pads).    CLOSED - Has a trace between the two pads to ensure it is closed by default.  The trace needs to be cut to disable the jumper, and can be closed again by creating a solder bridge between the two pads.
footprint SOLDERJUMPER_CLOSEDWIRE
pins: 1, 2

## SOLDERJUMPERREFLOW
designator SJ?, comment SMD Solder JUMPER   Solder the two pads together to create a connection, or remove the solder to break it.REFLOW - Use this footprint for solder paste and reflow ovens. WAVE - Use this footprint for hand-soldering (larger pads).    CLOSED - Has a trace between the two pads to ensure it is closed by default.  The trace needs to be cut to disable the jumper, and can be closed again by creating a solder bridge between the two pads.
footprint SOLDERJUMPER_REFLOW
pins: 1, 2

## SOLDERJUMPERREFLOW_NOPASTE
designator SJ?, comment SMD Solder JUMPER   Solder the two pads together to create a connection, or remove the solder to break it.REFLOW - Use this footprint for solder paste and reflow ovens. WAVE - Use this footprint for hand-soldering (larger pads).    CLOSED - Has a trace between the two pads to ensure it is closed by default.  The trace needs to be cut to disable the jumper, and can be closed again by creating a solder bridge between the two pads.
footprint SOLDERJUMPER_REFLOW_NOPASTE
pins: 1, 2

## SOLDERJUMPERWAVE
designator SJ?, comment SMD Solder JUMPER   Solder the two pads together to create a connection, or remove the solder to break it.REFLOW - Use this footprint for solder paste and reflow ovens. WAVE - Use this footprint for hand-soldering (larger pads).    CLOSED - Has a trace between the two pads to ensure it is closed by default.  The trace needs to be cut to disable the jumper, and can be closed again by creating a solder bridge between the two pads.
footprint SOLDERJUMPER_WAVE
pins: 1, 2

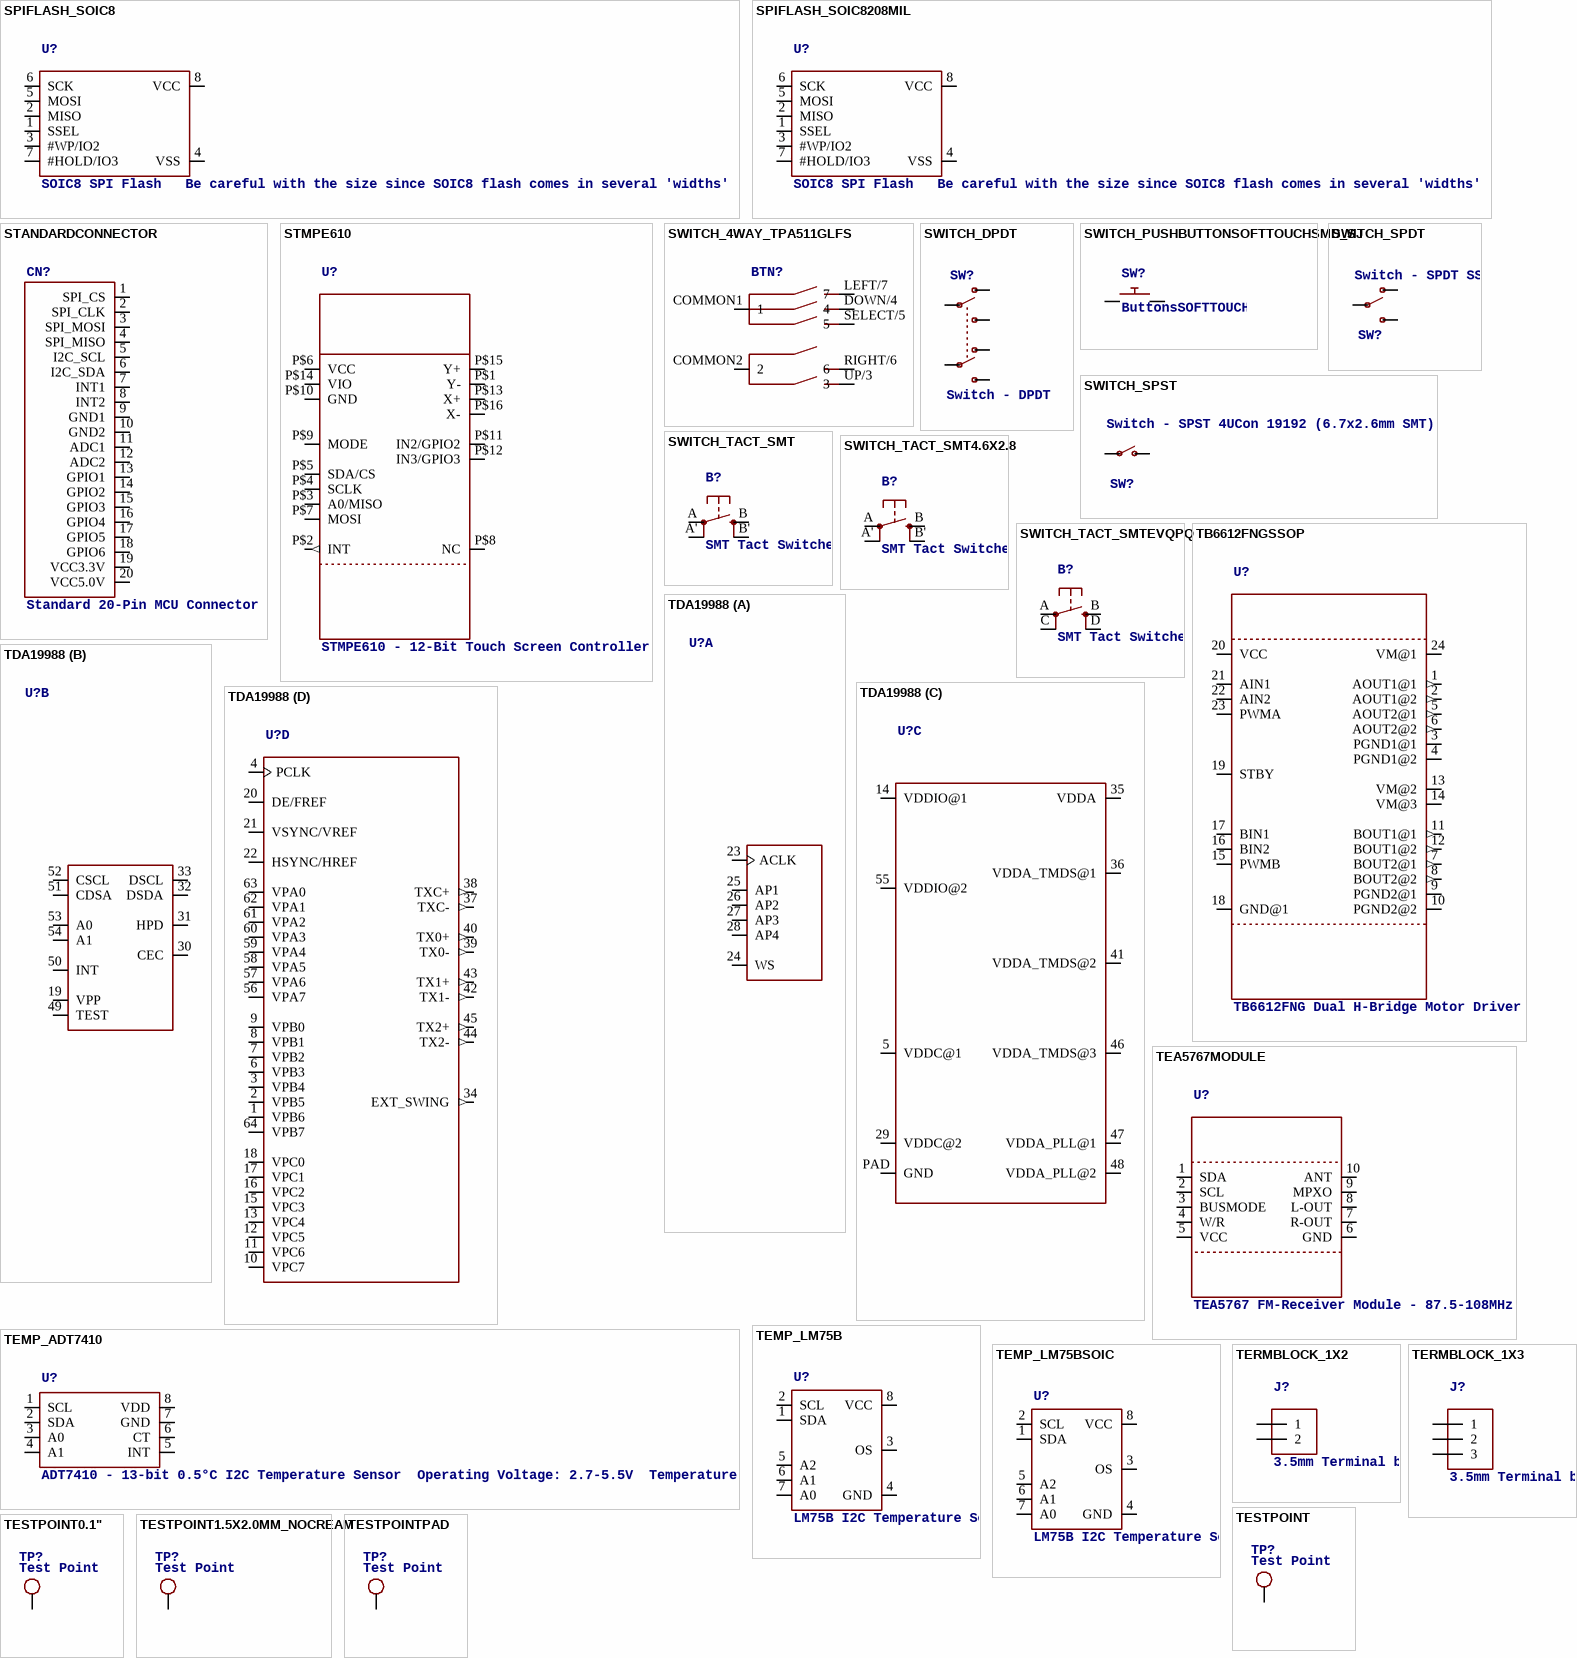
[diagram p49: symbols SPIFLASH_SOIC8 to TESTPOINTPAD]

## SPIFLASH_SOIC8
designator U?, comment SOIC8 SPI Flash   Be careful with the size since SOIC8 flash comes in several 'widths'   SOIC8 150 mil M25P16 - 16Mbit (2Mbit x 8) Serial Flash (75MHz SPI Bus), Supply: 2.7-3.6V  Digikey:  SOIC8 - M25P16-VMN6P-ND       SOIC8 208 mil W25Q16BVSSIG - 16Mbit (2Mbit x 8) Serial Flash (104MHz SPI Bus), Supply: 2.7-3.6V  Digikey:  SOIC8 - W25Q16BVSSIG-ND
footprint SOIC8_150MIL
pins: 1 SSEL, 2 MISO, 3 #WP/IO2, 4 VSS, 5 MOSI, 6 SCK, 7 #HOLD/IO3, 8 VCC

## SPIFLASH_SOIC8208MIL
designator U?, comment SOIC8 SPI Flash   Be careful with the size since SOIC8 flash comes in several 'widths'   SOIC8 150 mil M25P16 - 16Mbit (2Mbit x 8) Serial Flash (75MHz SPI Bus), Supply: 2.7-3.6V  Digikey:  SOIC8 - M25P16-VMN6P-ND       SOIC8 208 mil W25Q16BVSSIG - 16Mbit (2Mbit x 8) Serial Flash (104MHz SPI Bus), Supply: 2.7-3.6V  Digikey:  SOIC8 - W25Q16BVSSIG-ND
footprint SOIC8_208MIL
pins: 1 SSEL, 2 MISO, 3 #WP/IO2, 4 VSS, 5 MOSI, 6 SCK, 7 #HOLD/IO3, 8 VCC

## STANDARDCONNECTOR
designator CN?, comment Standard 20-Pin MCU Connector
footprint STANDARDCONNECTOR
pins: 1 SPI_CS, 2 SPI_CLK, 3 SPI_MOSI, 4 SPI_MISO, 5 I2C_SCL, 6 I2C_SDA, 7 INT1, 8 INT2, 9 GND1, 10 GND2, 11 ADC1, 12 ADC2, 13 GPIO1, 14 GPIO2, 15 GPIO3, 16 GPIO4, 17 GPIO5, 18 GPIO6, 19 VCC3.3V, 20 VCC5.0V

## STMPE610
designator U?, comment STMPE610 - 12-Bit Touch Screen Controller
footprint QFN16_3MM
pins: P$1 Y-, P$2 INT (out), P$3 A0/MISO, P$4 SCLK, P$5 SDA/CS, P$6 VCC (power), P$7 MOSI, P$8 NC, P$9 MODE, P$10 GND (power), P$11 IN2/GPIO2, P$12 IN3/GPIO3, P$13 X+, P$14 VIO (power), P$15 Y+, P$16 X-

## SWITCH_4WAY_TPA511GLFS
designator BTN?
footprint SWITCH_4WAY_TPA511GLFS
pins: COMMON1 1, COMMON2 2, DOWN/4 4, LEFT/7 7, RIGHT/6 6, SELECT/5 5, UP/3 3

## SWITCH_DPDT
designator SW?, comment Switch - DPDT   A DPDT Switch acts like an SPDT switch, but has a pair of switches instead of just one. Vertical - 0.3A @ 6V SMT - Digikey: JS202011SCQN
footprint DPDT_SMT_JS202011SCQN
pins: P$1 O1, P$2 P1, P$3 S1, P$4 S2, P$5 P2, P$6 O2

## SWITCH_PUSHBUTTONSOFTTOUCHSMD_SJ
designator SW?, comment ButtonsSOFTTOUCHSMD_SJ - Soft touch temporary push button (Super Junk Akihabara)    Compatible with SKPMANE010 [Mouser: 688-SKPMAN]
footprint PUSHBUTTON_SMD_SJ
pins: P$1, P$2

## SWITCH_SPDT
designator SW?, comment Switch - SPDT SSSS811101 - Horizontal Two Position SMT, 0.3A 4V [Mouser: 688-SSSS811101]
footprint SPDT_SMT_SSSS811101
pins: A O, B P, C S

## SWITCH_SPST
designator SW?, comment Switch - SPST 4UCon 19192 (6.7x2.6mm SMT)
footprint SPST_SMT_19192
pins: B P, C S

## SWITCH_TACT_SMT
designator B?, comment SMT Tact Switches 6x6mm - Digikey: P12940SCT-ND  KMR2 (4.6x2.8mm) - Digikey: 401-1426-1-ND  EVQ-PQHB55 - Light Touch, 160GF (4.5x4.5mm) - Digikey: P8090SCT-ND
footprint EVQ-Q2
pins: A P, A' P1, B S, B' S1

## SWITCH_TACT_SMT4.6X2.8
designator B?, comment SMT Tact Switches 6x6mm - Digikey: P12940SCT-ND  KMR2 (4.6x2.8mm) - Digikey: 401-1426-1-ND  EVQ-PQHB55 - Light Touch, 160GF (4.5x4.5mm) - Digikey: P8090SCT-ND
footprint BTN_KMR2_4.6X2.8
pins: A P, A' P1, B S, B' S1

## SWITCH_TACT_SMTEVQPQ
designator B?, comment SMT Tact Switches 6x6mm - Digikey: P12940SCT-ND  KMR2 (4.6x2.8mm) - Digikey: 401-1426-1-ND  EVQ-PQHB55 - Light Touch, 160GF (4.5x4.5mm) - Digikey: P8090SCT-ND
footprint BTN_EVQPQ_4.5MM
pins: A P, B S, C P1, D S1

## TB6612FNGSSOP
designator U?, comment TB6612FNG Dual H-Bridge Motor Driver
footprint SSOP24
pins: 1 AOUT1@1 (out), 2 AOUT1@2 (out), 3 PGND1@1 (power), 4 PGND1@2 (power), 5 AOUT2@1 (out), 6 AOUT2@2 (out), 7 BOUT2@1 (out), 8 BOUT2@2 (out), 9 PGND2@1 (power), 10 PGND2@2 (power), 11 BOUT1@1 (out), 12 BOUT1@2 (out), 13 VM@2 (power), 14 VM@3 (power), 15 PWMB, 16 BIN2, 17 BIN1, 18 GND@1 (power), 19 STBY, 20 VCC (power), 21 AIN1, 22 AIN2, 23 PWMA, 24 VM@1 (power)

## TDA19988
designator U?
footprint HVQFN64
part A pins: 23 ACLK, 24 WS, 25 AP1, 26 AP2, 27 AP3, 28 AP4
part B pins: 19 VPP, 30 CEC, 31 HPD, 32 DSDA, 33 DSCL, 49 TEST, 50 INT, 51 CDSA, 52 CSCL, 53 A0, 54 A1
part C pins: 5 VDDC@1 (power), 14 VDDIO@1 (power), 29 VDDC@2 (power), 35 VDDA (power), 36 VDDA_TMDS@1 (power), 41 VDDA_TMDS@2 (power), 46 VDDA_TMDS@3 (power), 47 VDDA_PLL@1 (power), 48 VDDA_PLL@2 (power), 55 VDDIO@2 (power), PAD GND (power)
part D pins: 1 VPB6, 2 VPB5, 3 VPB4, 4 PCLK, 6 VPB3, 7 VPB2, 8 VPB1, 9 VPB0, 10 VPC7, 11 VPC6, 12 VPC5, 13 VPC4, 15 VPC3, 16 VPC2, 17 VPC1, 18 VPC0, 20 DE/FREF, 21 VSYNC/VREF, 22 HSYNC/HREF, 34 EXT_SWING (out), 37 TXC- (out), 38 TXC+ (out), 39 TX0- (out), 40 TX0+ (out), 42 TX1- (out), 43 TX1+ (out), 44 TX2- (out), 45 TX2+ (out), 56 VPA7, 57 VPA6, 58 VPA5, 59 VPA4, 60 VPA3, 61 VPA2, 62 VPA1, 63 VPA0, 64 VPB7

## TEA5767MODULE
designator U?, comment TEA5767 FM-Receiver Module - 87.5-108MHz
footprint TEA5767MODULE
pins: 1 SDA, 2 SCL, 3 BUSMODE, 4 W/R, 5 VCC, 6 GND, 7 R-OUT, 8 L-OUT, 9 MPXO, 10 ANT

## TEMP_ADT7410
designator U?, comment ADT7410 - 13-bit 0.5°C I2C Temperature Sensor  Operating Voltage: 2.7-5.5V  Temperature Range: -55°C-150°C  Accuracy: 0.5°C from -40°C-105°C  Shutdown Current: 2uA (3.3V)  Typical Operating Current (1 Sample/s): 46uA (3.3V)    Digikey: ADT7410TRZ-ND
footprint SOIC8_150MIL
pins: 1 SCL, 2 SDA, 3 A0, 4 A1, 5 INT, 6 CT, 7 GND (power), 8 VDD (power)

## TEMP_LM75B
designator U?, comment LM75B I2C Temperature Sensor   The I2C-based LM75B can measure temperature between -55 and 125°C in 0.125°C increments (11-bit resolution).   Digikey: 568-4768-1-ND   For a 1.8V compatible part, look at the following pin and SW compatible parts: DS75LV - Mouser: 700-DS75LVS, Digikey: (TSSOP8) DS75LVU+-ND  (SOIC8) DS75LVS+-ND
footprint TSSOP8
pins: 1 SDA, 2 SCL, 3 OS, 4 GND (power), 5 A2, 6 A1, 7 A0, 8 VCC (power)

## TEMP_LM75BSOIC
designator U?, comment LM75B I2C Temperature Sensor   The I2C-based LM75B can measure temperature between -55 and 125°C in 0.125°C increments (11-bit resolution).   Digikey: 568-4768-1-ND   For a 1.8V compatible part, look at the following pin and SW compatible parts: DS75LV - Mouser: 700-DS75LVS, Digikey: (TSSOP8) DS75LVU+-ND  (SOIC8) DS75LVS+-ND
footprint SOIC8_150MIL
pins: 1 SDA, 2 SCL, 3 OS, 4 GND (power), 5 A2, 6 A1, 7 A0, 8 VCC (power)

## TERMBLOCK_1X2
designator J?, comment 3.5mm Terminal block    http://www.ladyada.net/library/pcb/eaglelibrary.html
footprint TERMBLOCK_1X2-3.5MM
pins: 1, 2

## TERMBLOCK_1X3
designator J?, comment 3.5mm Terminal block    http://www.ladyada.net/library/pcb/eaglelibrary.html
footprint TERMBLOCK_1X3-3.5MM
pins: 1, 2, 3

## TESTPOINT
designator TP?, comment Test Point   Various test points for characterisation and PCB testing    TESTPOINT_SMT - Compact Surface Mount Test Point [Digikey: 5016KTR-ND]
footprint TESTPOINT_SMT
pins: P$1

## TESTPOINT0.1"
designator TP?, comment Test Point   Various test points for characterisation and PCB testing    TESTPOINT_SMT - Compact Surface Mount Test Point [Digikey: 5016KTR-ND]
BOM: EXCLUDE
footprint 1X01_ROUND
pins: 1 P$1

## TESTPOINT1.5X2.0MM_NOCREAM
designator TP?, comment Test Point   Various test points for characterisation and PCB testing    TESTPOINT_SMT - Compact Surface Mount Test Point [Digikey: 5016KTR-ND]
footprint PAD-1.5X2.0
pins: P$1

## TESTPOINTPAD
designator TP?, comment Test Point   Various test points for characterisation and PCB testing    TESTPOINT_SMT - Compact Surface Mount Test Point [Digikey: 5016KTR-ND]
footprint TESTPOINT_PAD_2MM
pins: P$1

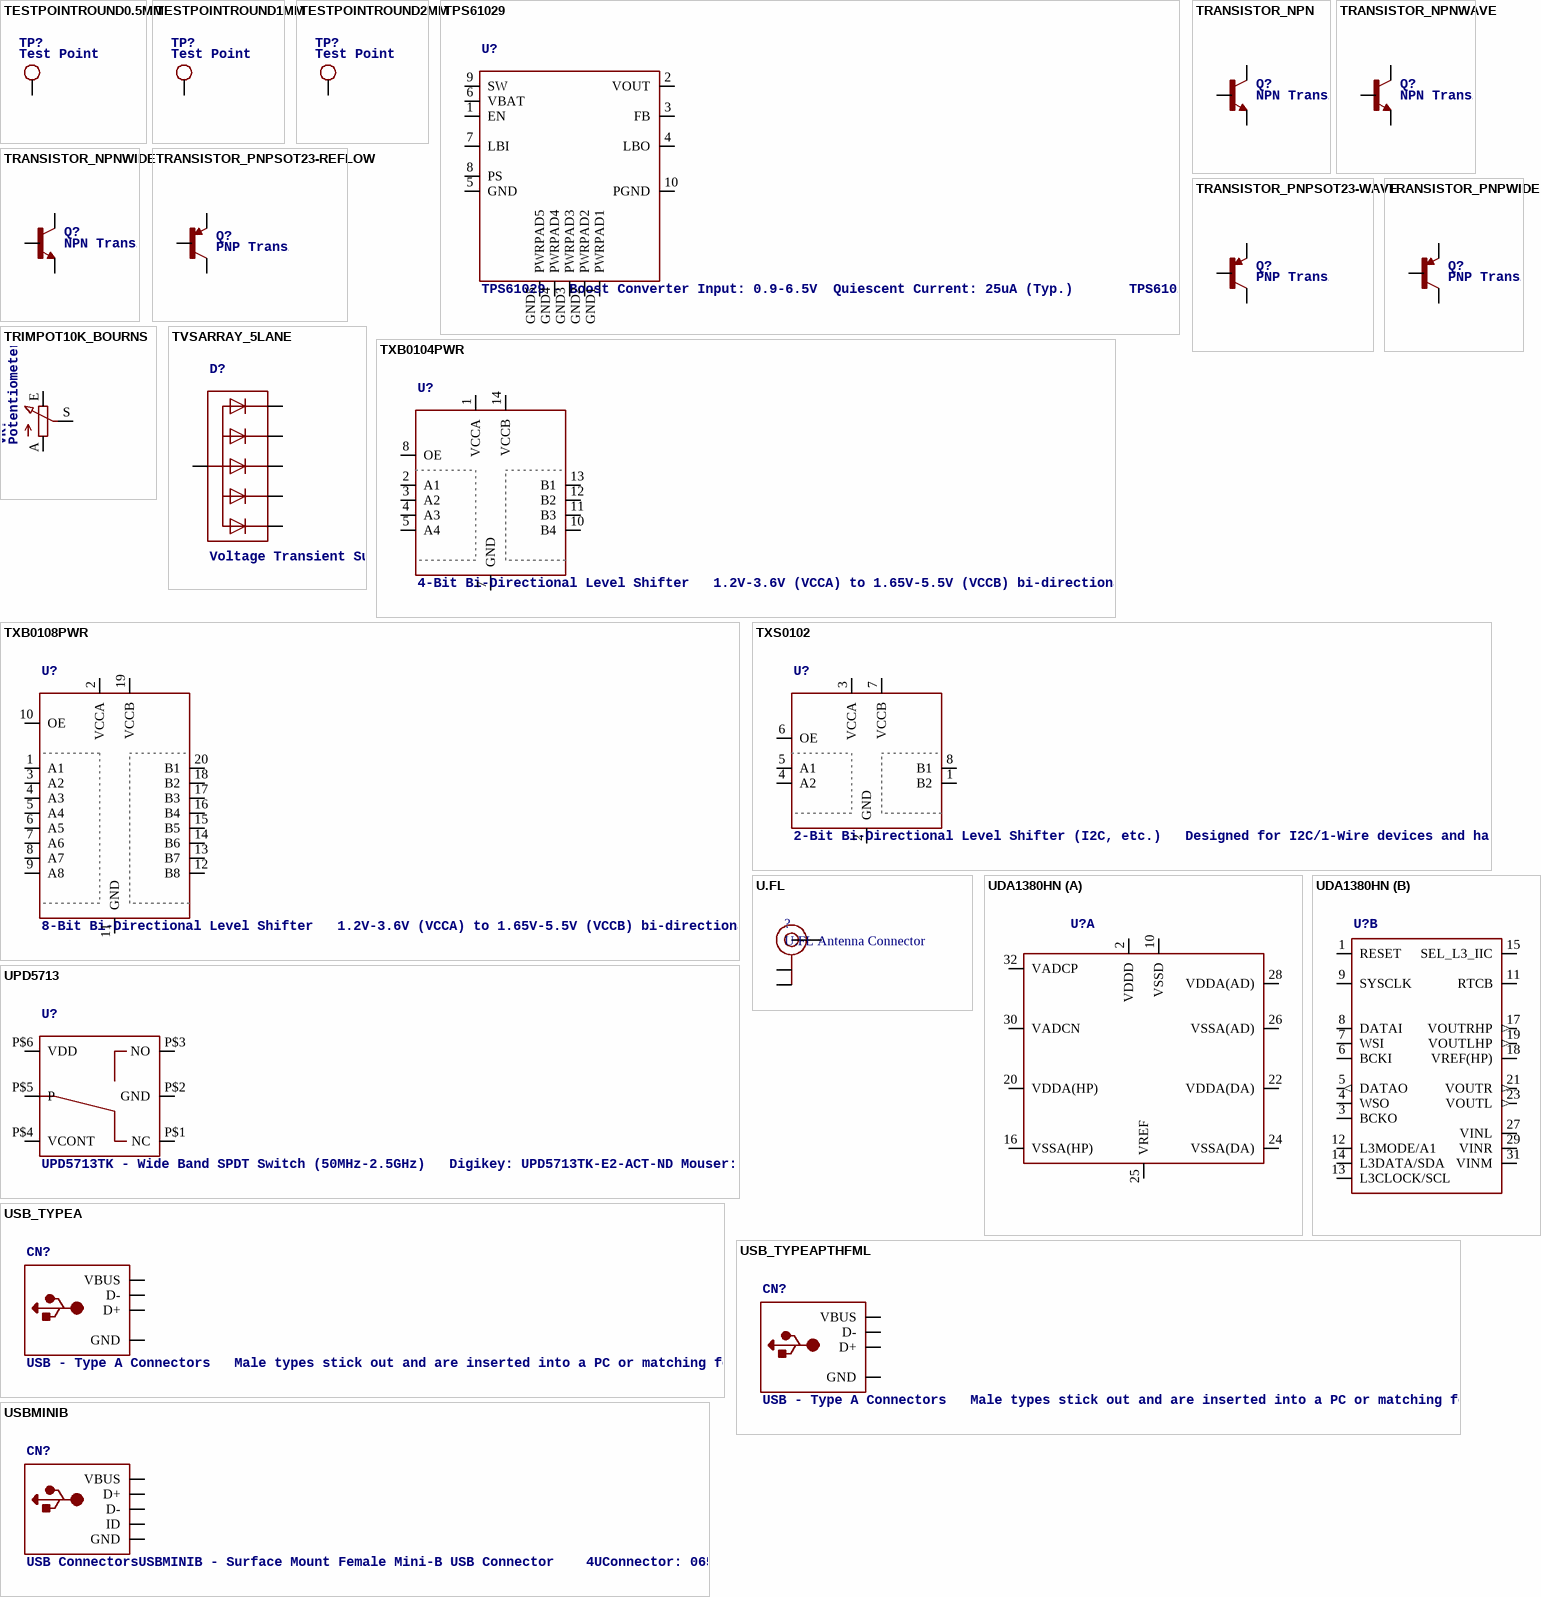
[diagram p50: symbols TESTPOINTROUND0.5MM to USBMINIB]

## TESTPOINTROUND0.5MM
designator TP?, comment Test Point   Various test points for characterisation and PCB testing    TESTPOINT_SMT - Compact Surface Mount Test Point [Digikey: 5016KTR-ND]
footprint TESTPOINT_ROUND_0.5MM
pins: P$1

## TESTPOINTROUND1MM
designator TP?, comment Test Point   Various test points for characterisation and PCB testing    TESTPOINT_SMT - Compact Surface Mount Test Point [Digikey: 5016KTR-ND]
footprint TESTPOINT_ROUND_1MM
pins: P$1

## TESTPOINTROUND2MM
designator TP?, comment Test Point   Various test points for characterisation and PCB testing    TESTPOINT_SMT - Compact Surface Mount Test Point [Digikey: 5016KTR-ND]
footprint TESTPOINT_ROUND_2MM
pins: P$1

## TPS61029
designator U?, comment TPS61029 - Boost Converter Input: 0.9-6.5V  Quiescent Current: 25uA (Typ.)       TPS61029DRCT = 1.8-5.5V Output TPS61027DRCR = 5.0V Output
footprint TPS61029
pins: 1 EN, 2 VOUT, 3 FB, 4 LBO, 5 GND, 6 VBAT, 7 LBI, 8 PS, 9 SW, 10 PGND, GND1 PWRPAD1, GND2 PWRPAD2, GND3 PWRPAD3, GND4 PWRPAD4, GND5 PWRPAD5

## TRANSISTOR_NPN
designator Q?, comment NPN Transistor Transistor (NPN) 500mA 45V - BC817 [Digikey: 568-1631-1-ND]  Transistor (NPN) 500mA 45V - BC817,215 [Mouser: 771-BC817-T/R]       SOT23-R - SOT23 footprint optimised for use with solder paste and reflow ovens. SOT23-W - SOT23 footprint optimised for hand-soldering (larger pads).
footprint SOT23-R
pins: 1 B, 2 E, 3 C

## TRANSISTOR_NPNWAVE
designator Q?, comment NPN Transistor Transistor (NPN) 500mA 45V - BC817 [Digikey: 568-1631-1-ND]  Transistor (NPN) 500mA 45V - BC817,215 [Mouser: 771-BC817-T/R]       SOT23-R - SOT23 footprint optimised for use with solder paste and reflow ovens. SOT23-W - SOT23 footprint optimised for hand-soldering (larger pads).
footprint SOT23-W
pins: 1 B, 2 E, 3 C

## TRANSISTOR_NPNWIDE
designator Q?, comment NPN Transistor Transistor (NPN) 500mA 45V - BC817 [Digikey: 568-1631-1-ND]  Transistor (NPN) 500mA 45V - BC817,215 [Mouser: 771-BC817-T/R]       SOT23-R - SOT23 footprint optimised for use with solder paste and reflow ovens. SOT23-W - SOT23 footprint optimised for hand-soldering (larger pads).
footprint SOT23-WIDE
pins: 1 B, 2 E, 3 C

## TRANSISTOR_PNPSOT23-REFLOW
designator Q?, comment PNP Transistor Transistor (PNP) 800mA 60V, 1.6V VCE @ 500mA [Digikey: MMBT2907AFSTR-ND]  Transistor (PNP) Low Sat - 1.5A 20V, 260mV VCE @ 400mA [Digikey: ZXTP25020DFLTR-ND]       SOT23-R - SOT23 footprint optimised for use with solder paste and reflow ovens. SOT23-W - SOT23 footprint optimised for hand-soldering (larger pads).
footprint SOT23-R
pins: 1 B, 2 E, 3 C

## TRANSISTOR_PNPSOT23-WAVE
designator Q?, comment PNP Transistor Transistor (PNP) 800mA 60V, 1.6V VCE @ 500mA [Digikey: MMBT2907AFSTR-ND]  Transistor (PNP) Low Sat - 1.5A 20V, 260mV VCE @ 400mA [Digikey: ZXTP25020DFLTR-ND]       SOT23-R - SOT23 footprint optimised for use with solder paste and reflow ovens. SOT23-W - SOT23 footprint optimised for hand-soldering (larger pads).
footprint SOT23-W
pins: 1 B, 2 E, 3 C

## TRANSISTOR_PNPWIDE
designator Q?, comment PNP Transistor Transistor (PNP) 800mA 60V, 1.6V VCE @ 500mA [Digikey: MMBT2907AFSTR-ND]  Transistor (PNP) Low Sat - 1.5A 20V, 260mV VCE @ 400mA [Digikey: ZXTP25020DFLTR-ND]       SOT23-R - SOT23 footprint optimised for use with solder paste and reflow ovens. SOT23-W - SOT23 footprint optimised for hand-soldering (larger pads).
footprint SOT23-WIDE
pins: 1 B, 2 E, 3 C

## TRIMPOT10K_BOURNS
designator VR?, comment Potentiometers  3mm 10K Single Turn - Digikey: 3303W-103ETR-ND   3mm 100K Single Turn - Digikey: 3303X-104ETR-ND
footprint TRIMPOT_BOURNS3MM
pins: A, E, S

## TVSARRAY_5LANE
designator D?, comment Voltage Transient Suppressor Array   SOT363 SMF05C - 100W 5V: Digikey - SMF05CT1GOSCT-ND
footprint SOT363
pins: 1 C1, 2 A, 3 C2, 4 C3, 5 C4, 6 C5

## TXB0104PWR
designator U?, comment 4-Bit Bi-Directional Level Shifter   1.2V-3.6V (VCCA) to 1.65V-5.5V (VCCB) bi-directional level shifter with auto direction sensing.    Max data rate - VCCA 1.8V:  20Mbps (50ns), VCCA 3.3V: 100Mbps (10ns)       Digikey: 296-21929-1-ND   NOTE: For cheaper alternative see NXP's NTB0104 (Digikey: 568-8404-1-ND)
footprint TSSOP14
pins: 1 VCCA, 2 A1, 3 A2, 4 A3, 5 A4, 7 GND, 8 OE, 10 B4, 11 B3, 12 B2, 13 B1, 14 VCCB

## TXB0108PWR
designator U?, comment 8-Bit Bi-Directional Level Shifter   1.2V-3.6V (VCCA) to 1.65V-5.5V (VCCB) bi-directional level shifter with auto direction sensing.    Max data rate - VCCA 1.8V:  20Mbps (50ns), VCCA 3.3V: 100Mbps (10ns)       Digikey: 296-21527-1-ND
footprint TSSOP20
pins: 1 A1, 2 VCCA, 3 A2, 4 A3, 5 A4, 6 A5, 7 A6, 8 A7, 9 A8, 10 OE, 11 GND, 12 B8, 13 B7, 14 B6, 15 B5, 16 B4, 17 B3, 18 B2, 19 VCCB, 20 B1

## TXS0102
designator U?, comment 2-Bit Bi-Directional Level Shifter (I2C, etc.)   Designed for I2C/1-Wire devices and has internal pullups.  Not to be confused with TXB010x series.   1.2V-3.6V (VCCA) to 1.65V-5.5V (VCCB) bi-directional level shifter with auto direction sensing.    Max data rate - 24Mbps (Push Pull), 2Mbps (Open Drain)       Digikey: 296-21931-1-ND   NOTE: For cheaper alternative see NXP's NTS0102 (Mouser: 771-NTS0102GT115)
footprint VFSOP-8
pins: 1 B2, 2 GND, 3 VCCA, 4 A2, 5 A1, 6 OE, 7 VCCB, 8 B1

## U.FL
designator ?, comment U.FL Antenna Connector
footprint U.FL
pins: 1 GND@0, 2 GND@1, 3 SIGNAL

## UDA1380HN
designator U?
footprint HVQFN32
part A pins: 2 VDDD (power), 10 VSSD (power), 16 VSSA(HP) (power), 20 VDDA(HP) (power), 22 VDDA(DA) (power), 24 VSSA(DA) (power), 25 VREF (power), 26 VSSA(AD) (power), 28 VDDA(AD) (power), 30 VADCN (power), 32 VADCP (power)
part B pins: 1 RESET, 3 BCKO, 4 WSO, 5 DATAO (out), 6 BCKI, 7 WSI, 8 DATAI, 9 SYSCLK, 11 RTCB, 12 L3MODE/A1, 13 L3CLOCK/SCL, 14 L3DATA/SDA, 15 SEL_L3_IIC, 17 VOUTRHP (out), 18 VREF(HP), 19 VOUTLHP (out), 21 VOUTR (out), 23 VOUTL (out), 27 VINL, 29 VINR, 31 VINM

## UPD5713
designator U?, comment UPD5713TK - Wide Band SPDT Switch (50MHz-2.5GHz)   Digikey: UPD5713TK-E2-ACT-ND Mouser: 551-UPD5713TK-A
footprint MINIMOLD6
pins: P$1 NC, P$2 GND, P$3 NO, P$4 VCONT, P$5 P, P$6 VDD

## USB_TYPEA
designator CN?, comment USB - Type A Connectors   Male types stick out and are inserted into a PC or matching females parts (these are the connectors used on USB Memory Sticks, etc.).  Female parts are generally used for USB Host and accept a male-type connector.   SMT Male - 4UCON: 10017   PTH Female - Digikey: 609-1045-ND, 4UCon: 05241
footprint USB_A-SMT
pins: D+, D-, GND (power), VBUS (power)

## USB_TYPEAPTHFML
designator CN?, comment USB - Type A Connectors   Male types stick out and are inserted into a PC or matching females parts (these are the connectors used on USB Memory Sticks, etc.).  Female parts are generally used for USB Host and accept a male-type connector.   SMT Male - 4UCON: 10017   PTH Female - Digikey: 609-1045-ND, 4UCon: 05241
footprint USB_HOST-PTH
pins: D+, D-, GND (power), VBUS (power)

## USBMINIB
designator CN?, comment USB ConnectorsUSBMINIB - Surface Mount Female Mini-B USB Connector    4UConnector: 06564
footprint USB-MINIB
pins: D+, D-, GND (power), ID, VBUS (power)

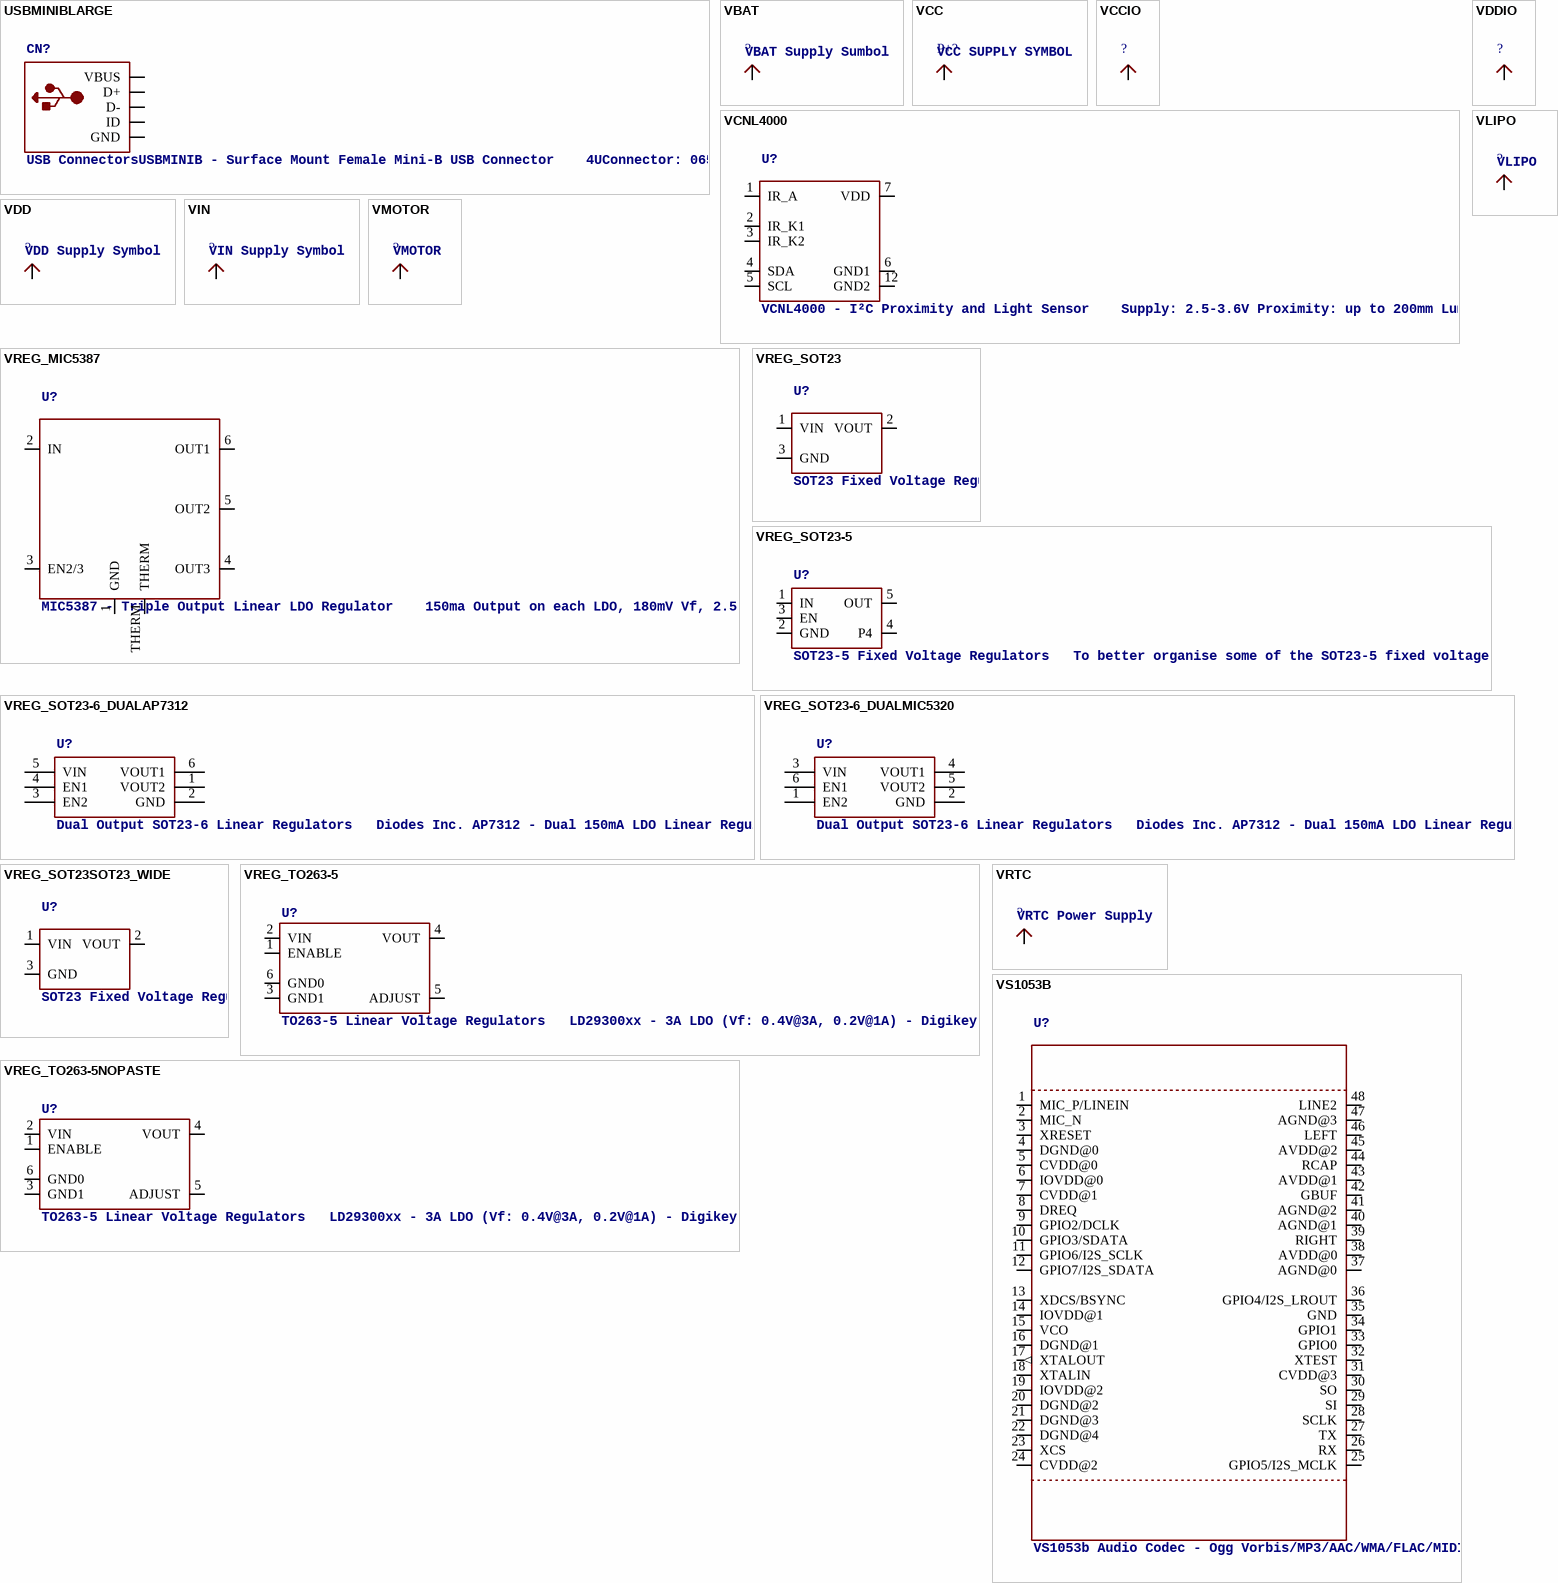
[diagram p51: symbols USBMINIBLARGE to VS1053B]

## USBMINIBLARGE
designator CN?, comment USB ConnectorsUSBMINIB - Surface Mount Female Mini-B USB Connector    4UConnector: 06564
footprint USB-MINIB_LARGER
pins: D+, D-, GND (power), ID, VBUS (power)

## VBAT
designator ?, comment VBAT Supply Sumbol
pins: ?1 VBAT (oe)

## VCC
designator P+?, comment VCC SUPPLY SYMBOL
pins: ?1 VCC (oe)

## VCCIO
designator ?
pins: ?1 VCCIO (oe)

## VCNL4000
designator U?, comment VCNL4000 - I²C Proximity and Light Sensor    Supply: 2.5-3.6V Proximity: up to 200mm Luminosity: 0.25 to 16,000 lux (16-bit values)   Digikey: 751-1505-1-ND
footprint VCNL4000
pins: 1 IR_A, 2 IR_K1, 3 IR_K2, 4 SDA, 5 SCL, 6 GND1, 7 VDD, 12 GND2

## VDD
designator ?, comment VDD Supply Symbol
pins: ?1 VDD (oe)

## VDDIO
designator ?
pins: ?1 VDDIO (oe)

## VIN
designator ?, comment VIN Supply Symbol
pins: ?1 VIN (oe)

## VLIPO
designator ?
pins: ?1 VLIPO (oe)

## VMOTOR
designator ?
pins: ?1 VMOTOR (oe)

## VREG_MIC5387
designator U?, comment MIC5387 - Triple Output Linear LDO Regulator    150ma Output on each LDO, 180mV Vf, 2.5-5.5V Input 3.3V, 1.8V, 1.2V - Digikey: 576-3689-1-ND
footprint TMLF-6
pins: 1 GND, 2 IN, 3 EN2/3, 4 OUT3, 5 OUT2, 6 OUT1, THERM

## VREG_SOT23
designator U?, comment SOT23 Fixed Voltage Regulators    Part	Current Out	V Out	V In	V Dropout	Digikey Part No.	     AP7313	  150mA	  3.3V	  3.5-6V	  0.15V @ 150mA	  AP7313-33SAG-7DICT-ND
footprint SOT23-R
pins: 1 VIN (power), 2 VOUT (power), 3 GND (power)